# Altium schematic symbol library TMDX654GPEVM.SCHLIB: 339 symbols (part 1 of 6)
Pins are listed as number, name and electrical type; pins without a type are passive.

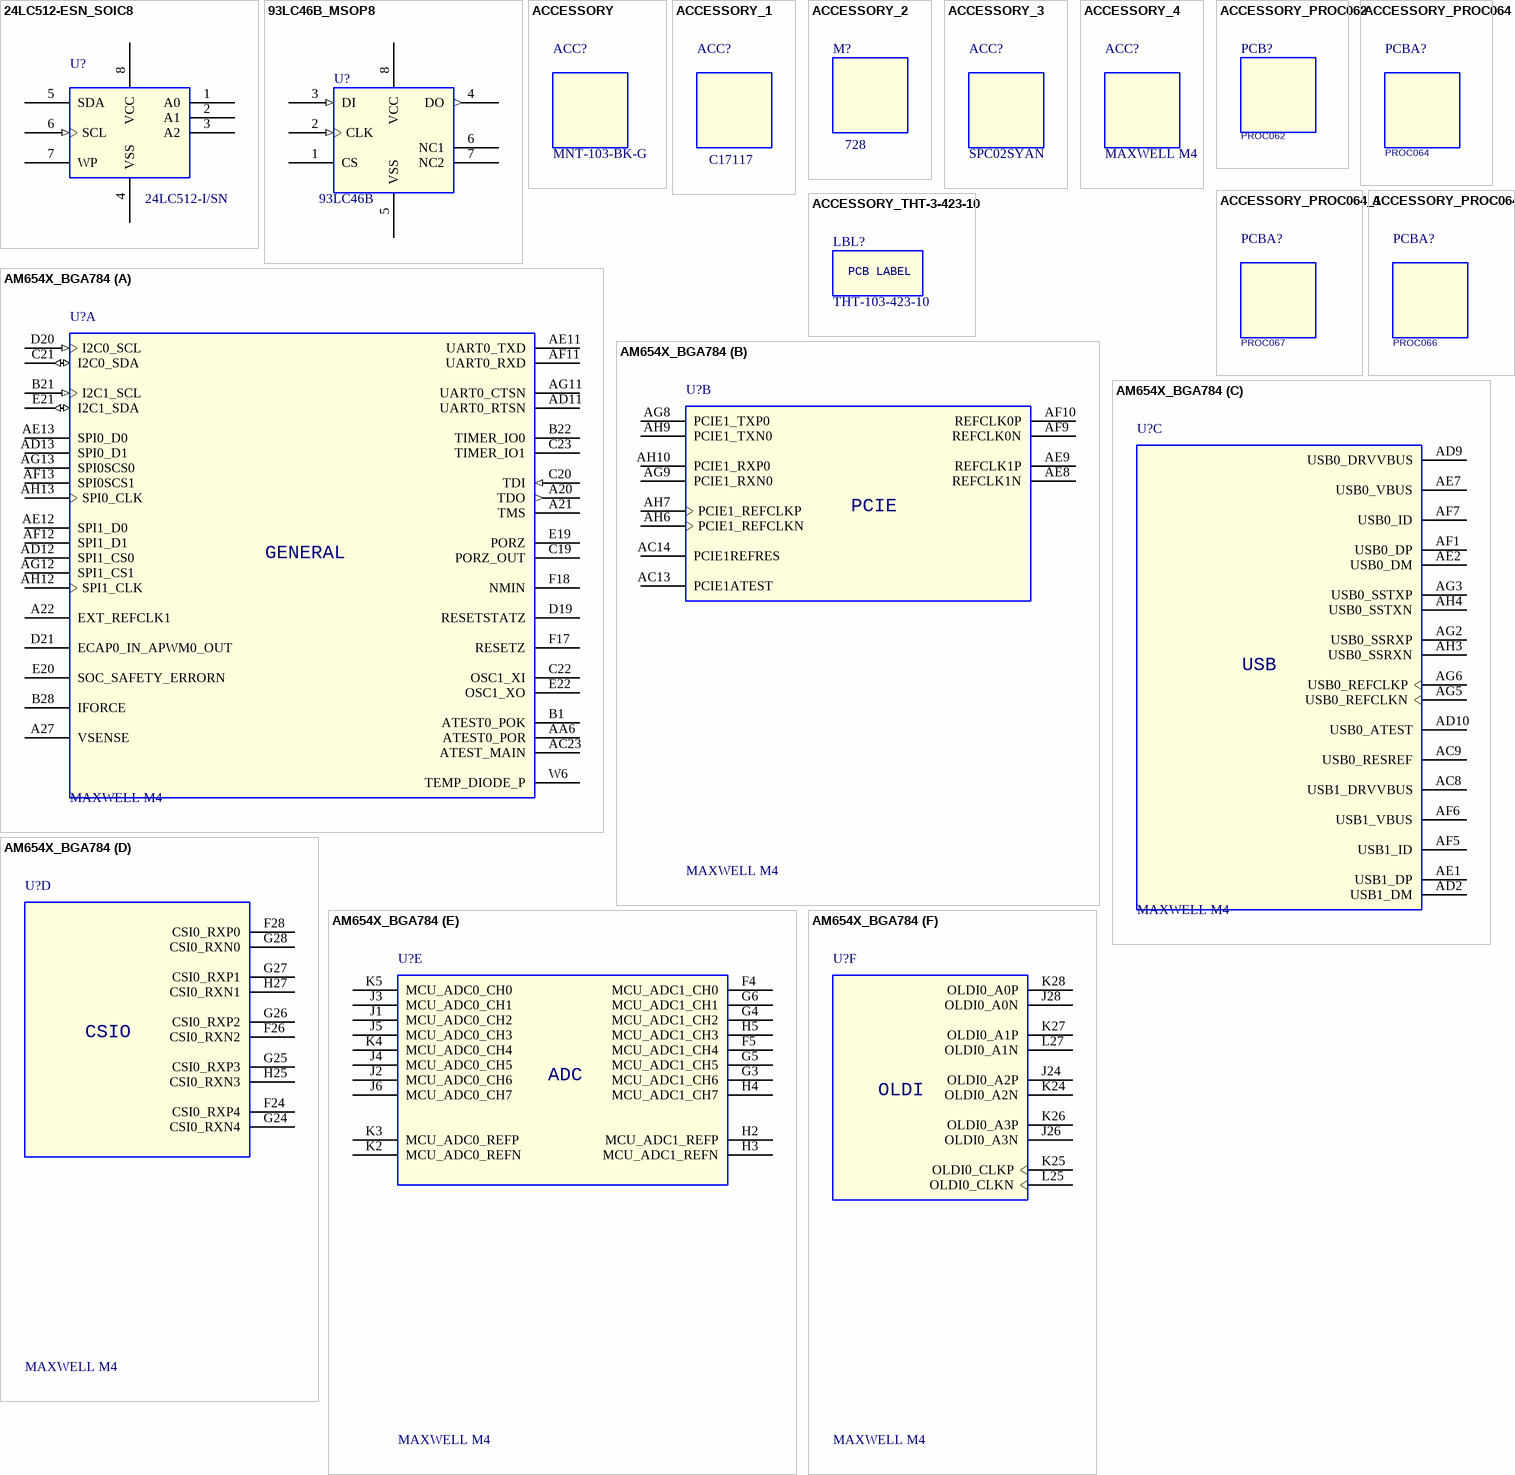
[diagram p0: symbols 24LC512-ESN_SOIC8 to AM654X_BGA784]

## 24LC512-ESN_SOIC8
designator U?, comment 24LC512-I/SN
IC 512K I2C SERIAL EEPROM MEMORY SOIC8; Mistral Part No: 141117080005-R; Mfr_name: MICROCHIP; Part_type: ICS\DIGITAL\MEMORY; Project: TI_MAXIE_CPB; Tolerance: NA; Customs_HS_Code: 85423100; Custom_Duty: 15%; MECHANICAL 3D STEP FILE: SOIC8_1-8; Library Ref: 24LC512-ESN_SOIC8; Mfr_part_number: 24LC512-I/SN; Voltage: NA; Wattage: NA; Package: SOIC8; Distributor_name: DIGIKEY; Distributor_part_number: 24LC512-I/SN-ND; Height: 1.75MM; Weight: 540mg; Temperature: -40°C+85°C; Datasheet: Y:\MIS_DATABASE\DATASHEETS\ICS\MEMORY\24LC512.PDF; Crtd /date: MANIRAJA/220817; Chkd/date: MANIRAJA/220817; PCB Footprint: SOIC8_1-8
footprint SOIC8_1-8
pins: 1 A0, 2 A1, 3 A2, 4 VSS (power), 5 SDA, 6 SCL (in), 7 WP, 8 VCC (power)

## 93LC46B_MSOP8
designator U?, comment 93LC46B
IC 1K MICROWIRE COMPATIBLE SERIAL EEPROM MSOP8; Part_type: ICS\DIGITAL\MEMORY; Mfr_part_number: 93LC46B-I/MS; Mfr_name: MICROCHIP; Mistral Part No: 141118020002-R; PCB Footprint: MSOP8_25-59_125X125_1-1; Custom_Duty: 15%; Customs_HS_Code: 85423100; Wattage: NA; Project: TI_MAXIE_CPB; Footprint Path: Y:\MIS_DATABASE\Library\ALTIUM_TOOL\PCB_FOOTPRINTS\Altium_Footprint_Lib.PcbLib; Library Path: Y:\MIS_DATABASE\Library\ALTIUM_TOOL\SCHEMATICS_PARTS\MS_MISCMEMORY_Library.schlib; MECHANICAL 3D STEP FILE: MSOP8_25-59_125X125_1-1; Chkd/date: MANIRAJA/150218; Crtd /date: ALVY/150218; Datasheet: Y:\MIS_DATABASE\DATASHEETS\ICS\MEMORY\93LC46B.PDF; Temperature: -40°C+85°C; Weight: 140mg; Height: 1.10MM; Distributor_part_number: 93LC46B-I/MS-ND; Distributor_name: DIGIKEY; Package: MSOP8; Voltage: NA; Tolerance: NA; Library Ref: 93LC46B_MSOP8; Footprint Ref: MSOP8_25-59_125X125_1-1
footprint MSOP8_25-59_125X125_1-1
pins: 1 CS, 2 CLK (in), 3 DI (in), 4 DO (out), 5 VSS (power), 6 NC1, 7 NC2, 8 VCC (power)

## ACCESSORY
designator ACC?, comment MNT-103-BK-G
ACCESSORIE CONNECTOR SHUNT 2X3 POS EDGE MOUNT SOCKET STRIP; Part_type: ACCESSORIES; Mfr_name: SAMTEC; Mistral Part No: 160017110050-R; PCB Footprint: NA; Project: TI_MAXIE_CPB; MECHANICAL 3D STEP FILE: NA; Chkd/date: MANIRAJA/141117; Crtd /date: MANIRAJA/141117; Datasheet: Y:\MIS_DATABASE\DATASHEETS\MISC\ACCESSORIES\SAMTEC-MNT-SER.PDF; Temperature: -55°C+125°C; Weight: NA; Height: NA; Distributor_part_number: SAM10620-ND; Distributor_name: DIGIKEY; Package: NA; Wattage: NA; Voltage: NA; Tolerance: NA; Mfr_part_number: MNT-103-BK-G; Library Ref: ACCESSORY
footprint NA

## ACCESSORY_1
designator ACC?, comment C17117
ACCESSORIE BGA SOCKET MAXWELL M4 MICROPROCESSOR BGA784; Part_type: ACCESSORIES; Mfr_name: IRONWOOD ELECTRONICS; Mistral Part No: 160017090045; MECHANICAL 3D STEP FILE: BGASKT784_C17117_2170X2170_37-4; Wattage: NA; Project: TI_SVB_MAXWELL_DUT; Chkd/date: MANIRAJA/190917; Crtd /date: MANIRAJA/190917; Datasheet: Y:\MIS_DATABASE\DATASHEETS\MISC\ACCESSORIES\C17117.PDF; Temperature: NA; Weight: 105.46g; Height: 37.34MM; Library Ref: ACCESSORY; Distributor_part_number: NA; Distributor_name: NA; Package: BGA784; Voltage: NA; Tolerance: NA; Mfr_part_number: C17117; PCB Footprint: BGASKT784_C17117_2170X2170_37-4
footprint BGASKT784_C17117_2170X2170_37-4

## ACCESSORY_2
designator M?, comment 728
ACCESSORIE RECESSED BUMPER 19.05MM DIA; Mistral Part No: 160018070042-R; Mfr_name: KEYSTONE; Part_type: ACCESSORIES; Project: TI_MAXIE_CPB; Tolerance: NA; Footprint Ref: NA; Mfr_part_number: 728; Voltage: NA; Wattage: NA; Package: NA; Distributor_name: DIGIKEY; Distributor_part_number: 36-728-ND; Library Ref: ACCESSORY; Height: NA; Weight: 2042mg; Temperature: NA; Datasheet: Y:\MIS_DATABASE\DATASHEETS\MISC\ACCESSORIES\728.PDF; Crtd /date: MANIRAJA/110718; Chkd/date: MANIRAJA/110718; Customs_HS_Code: NA; Custom_Duty: NA; MECHANICAL 3D STEP FILE: NA; Library Path: NA; Footprint Path: NA; PCB Footprint: NA
footprint NA

## ACCESSORY_3
designator ACC?, comment SPC02SYAN
ACCESSORIE JUMPER SHORTING GOLD FLASH; Mistral Part No: 160009030153-R; Mfr_name: SULLINS CONNECTOR; Part_type: ACCESSORIES; PCB Footprint: NA; Project: SMART VIEW_NVR; Mfr_part_number: SPC02SYAN; Package: NA; Distributor_name: DIGIKEY; Distributor_part_number: S9001-ND; Library Ref: ACCESSORY; Height: NA; Datasheet: Y:\MIS_DATABASE\DATASHEETS\MISC\MODULES\SPC02SYAN.PDF; Crtd /date: USMAN/301208; Chkd/date: SUHAS\211010; Tolerance: NA; Voltage: NA; Wattage: NA; Weight: NA; Temperature: -55°C+105°C; MECHANICAL 3D STEP FILE: NA; Library Path: Y:\MIS_DATABASE\Library\ALTIUM_TOOL\SCHEMATICS_PARTS\MS_MECHANICAL_Library.schlib; Footprint Path: Y:\MIS_DATABASE\Library\ALTIUM_TOOL\PCB_FOOTPRINTS\Altium_Footprint_Lib.PcbLib
footprint NA

## ACCESSORY_4
designator ACC?, comment MAXWELL M4
IC MAXWELL MICRO CONTROLLER UNIT BGA784; Part_type: ICS\DIGITAL\MICROCONTROLLER; Mfr_name: TEXAS INSTRUMENTS; Mistral Part No: 141217070003; MECHANICAL 3D STEP FILE: BGA784_31-49_910X910_1-7; Wattage: NA; Project: TI_SVB_MAXWELL_DUT; Customs_HS_Code: 85423100; Custom_Duty: 15%; Chkd/date: MANIRAJA/130717; Crtd /date: MANIRAJA/130717; Datasheet: Y:\MIS_DATABASE\DATASHEETS\ICS\DIGITAL\MICROCONTROLLER\MAXWELLM4.PDF; Temperature: NA; Weight: NA; Height: 1.63MM; Distributor_part_number: NA; Distributor_name: NA; Package: BGA784; Voltage: NA; Tolerance: NA; Mfr_part_number: MAXWELL M4; Library Ref: MAXWELLM4; PCB Footprint: BGA784_31-49_910X910_1-7
footprint BGA784_31-49_910X910_1-7

## ACCESSORY_PROC062
designator PCB?, comment Mfr_part_number: PROC062  (hidden comment: AM65x EVM BARE PCB)
ACCESSORIE AM65x EVM BARE PCB; Mistral Part No: FY180646000103; Mfr_name: TEXAS INSTRUMENTS; Part_type: ACCESSORIES; Project: TI_MAXIE_CPB; Tolerance: NA; Footprint Ref: NA; Voltage: NA; Wattage: NA; Package: NA; Distributor_name: NA; Distributor_part_number: NA; Library Ref: ACCESSORY_PROC062; Height: NA; Weight: NA; Temperature: NA; Datasheet: NA; Crtd /date: MANIRAJA/230718; Chkd/date: MANIRAJA/230718; RoHS: NA; Customs_HS_Code: NA; Custom_Duty: NA; MECHANICAL 3D STEP FILE: NA; Library Path: NA; Footprint Path: NA; PCB Footprint: NA
footprint NA

## ACCESSORY_PROC064
designator PCBA?, comment Mfr_part_number: PROC064  (hidden comment: AM6x IDK APPLICATION CARD)
ACCESSORIE AM6x IDK APPLICATION CARD; Part_type: ACCESSORIES; Mfr_name: TEXAS INSTRUMENTS; Mistral Part No: FY180646000203; MECHANICAL 3D STEP FILE: NA; Project: TI_MAXIE_CPB; Footprint Path: NA; Library Path: NA; Custom_Duty: NA; Customs_HS_Code: NA; RoHS: NA; Chkd/date: MANIRAJA/230718; Crtd /date: MANIRAJA/230718; Datasheet: NA; Temperature: NA; Weight: NA; Height: NA; Library Ref: ACCESSORY_PROC064; Distributor_part_number: NA; Distributor_name: NA; Package: NA; Wattage: NA; Voltage: NA; Tolerance: NA; Footprint Ref: NA; PCB Footprint: NA
footprint NA

## ACCESSORY_PROC064_1
designator PCBA?, comment Mfr_part_number: PROC067  (hidden comment: AM6x PCIE-2 LANE SERDES CARD)
ACCESSORIE AM6x PCIE-2 LANE SERDES CARD; Part_type: ACCESSORIES; Mfr_name: TEXAS INSTRUMENTS; Mistral Part No: FY180646000803; MECHANICAL 3D STEP FILE: NA; Project: TI_MAXIE_CPB; Footprint Path: NA; Library Path: NA; Custom_Duty: NA; Customs_HS_Code: NA; RoHS: NA; Chkd/date: MANIRAJA/230718; Crtd /date: MANIRAJA/230718; Datasheet: NA; Temperature: NA; Weight: NA; Height: NA; Library Ref: ACCESSORY_PROC064; Distributor_part_number: NA; Distributor_name: NA; Package: NA; Wattage: NA; Voltage: NA; Tolerance: NA; Footprint Ref: NA; PCB Footprint: NA
footprint NA

## ACCESSORY_PROC064_2
designator PCBA?, comment Mfr_part_number: PROC066  (hidden comment: AM6x USB3/PCIE SERDES CARD)
ACCESSORIE AM6x USB3/PCIE SERDES CARD; Mistral Part No: FY180646000603; Mfr_name: TEXAS INSTRUMENTS; Part_type: ACCESSORIES; Project: TI_MAXIE_CPB; Tolerance: NA; Footprint Ref: NA; Voltage: NA; Wattage: NA; Package: NA; Distributor_name: NA; Distributor_part_number: NA; Library Ref: ACCESSORY_PROC064; Height: NA; Weight: NA; Temperature: NA; Datasheet: NA; Crtd /date: MANIRAJA/230718; Chkd/date: MANIRAJA/230718; RoHS: NA; Customs_HS_Code: NA; Custom_Duty: NA; MECHANICAL 3D STEP FILE: NA; Library Path: NA; Footprint Path: NA; PCB Footprint: NA
footprint NA

## ACCESSORY_THT-3-423-10
designator LBL?, comment THT-103-423-10
ACCESSORIE 1 WORKHORSE POLYSTER LABLE 0.25" X 1"; Mistral Part No: 160018020185; Mfr_name: BRADY; Part_type: ACCESSORIES; Project: TI_MAXIE_CPB; Tolerance: NA; Mfr_part_number: THT-103-423-10; Voltage: NA; Wattage: NA; Package: NA; Distributor_name: NA; Distributor_part_number: NA; Library Ref: ACCESSORY_THT-3-423-10; Footprint Ref: NA; Height: NA; Weight: NA; Temperature: NA; Datasheet: NA; Crtd /date: ALVY/260218; Chkd/date: MANIRAJA/270218; MECHANICAL 3D STEP FILE: NA; Library Path: Y:\MIS_DATABASE\Library\ALTIUM_TOOL\SCHEMATICS_PARTS\MS_MECHANICAL_Library.schlib; Footprint Path: Y:\MIS_DATABASE\Library\ALTIUM_TOOL\PCB_FOOTPRINTS\Altium_Footprint_Lib.PcbLib; PCB Footprint: NA
footprint NA
text: PCB LABEL

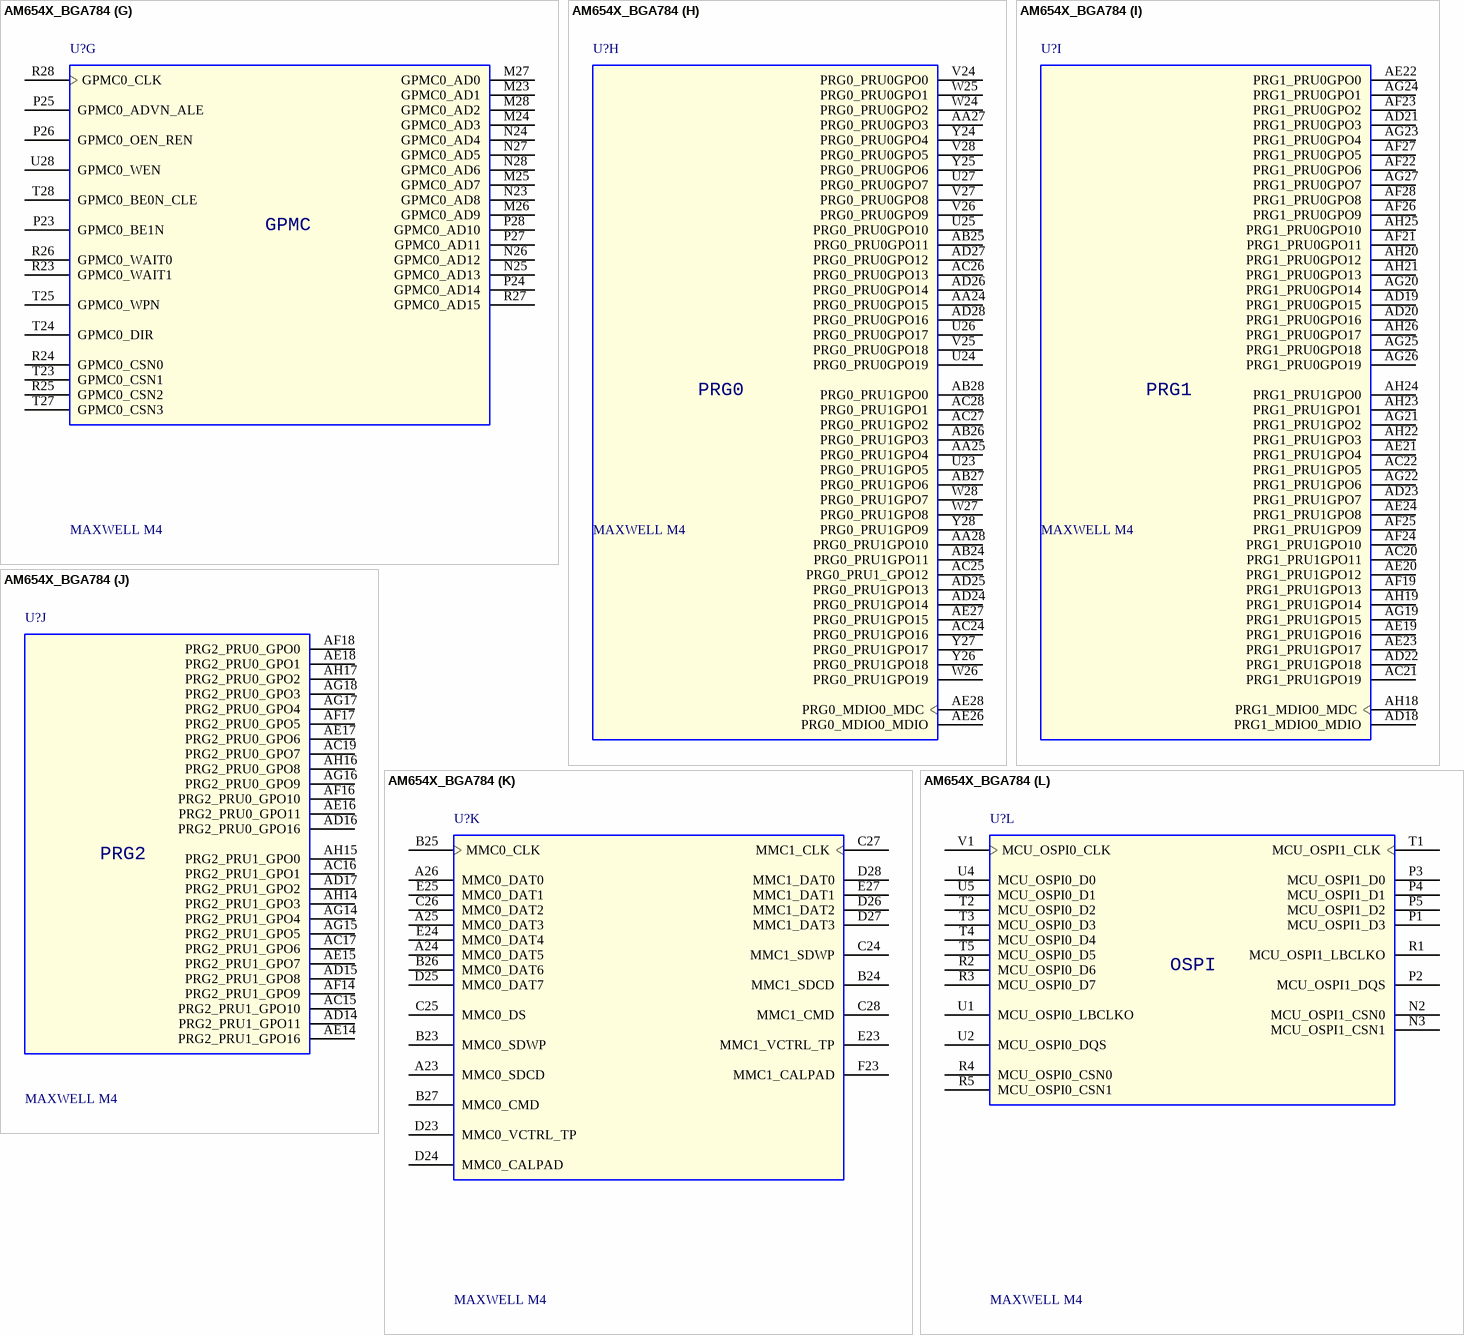
[diagram p1: symbol AM654X_BGA784]

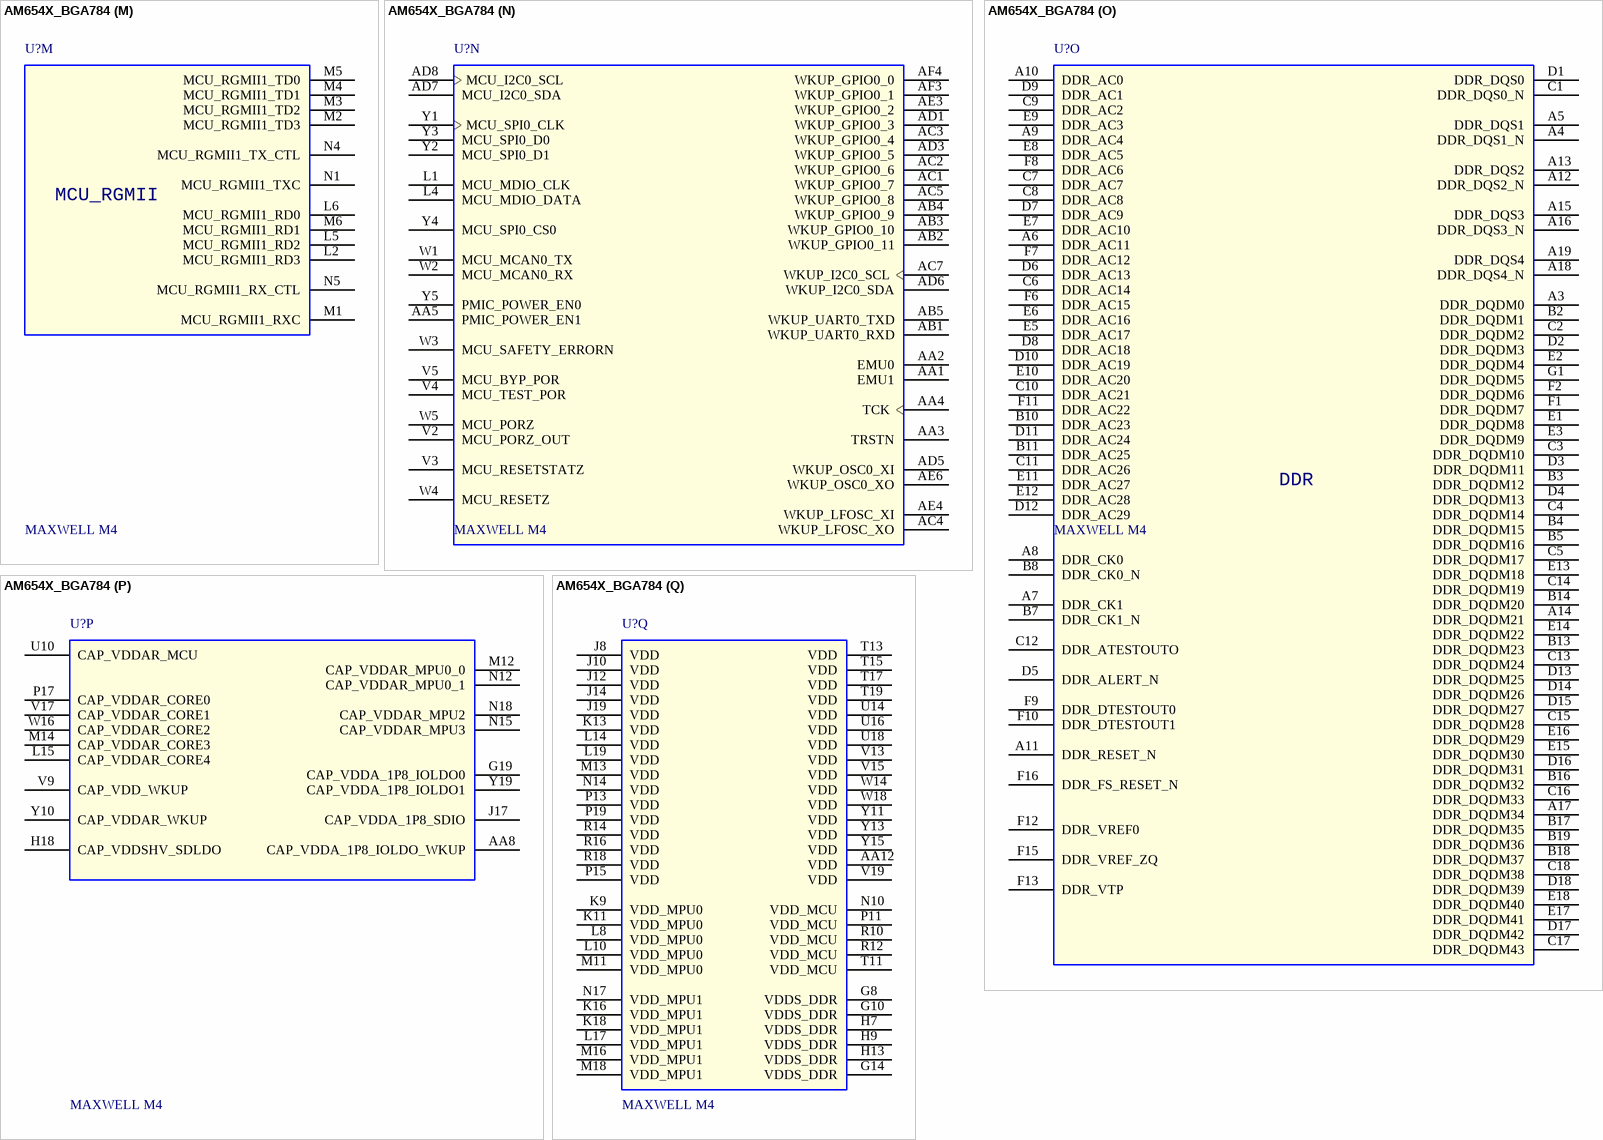
[diagram p2: symbol AM654X_BGA784]

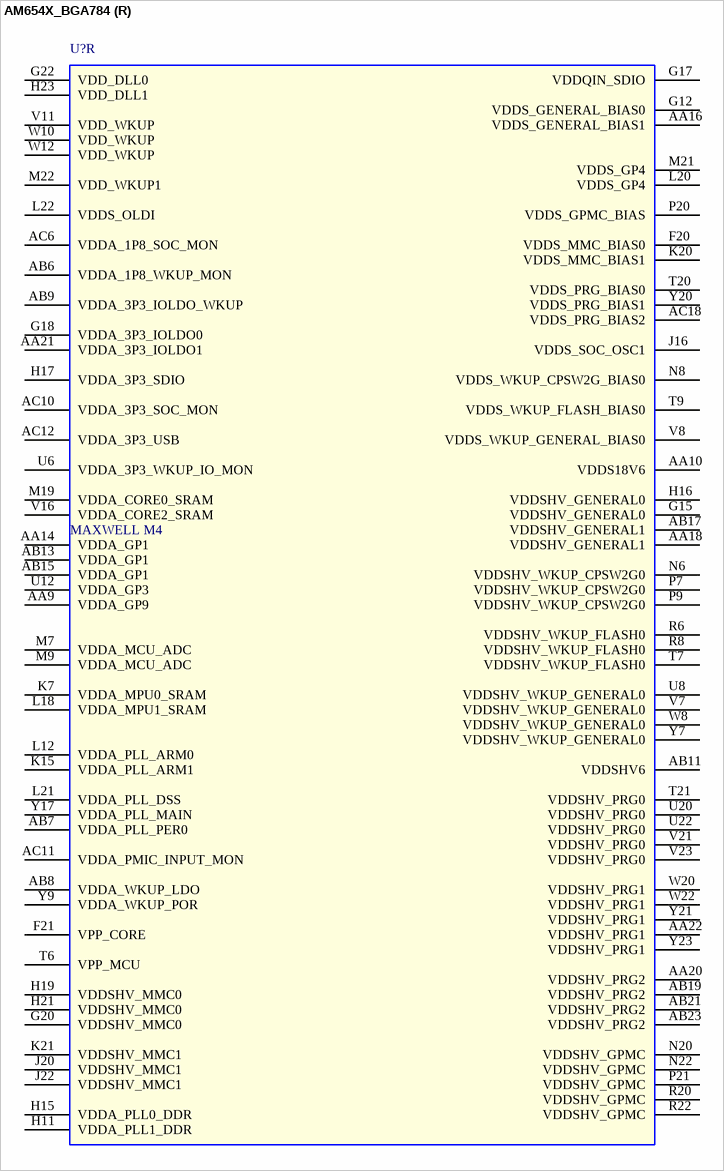
[diagram p3: symbol AM654X_BGA784]

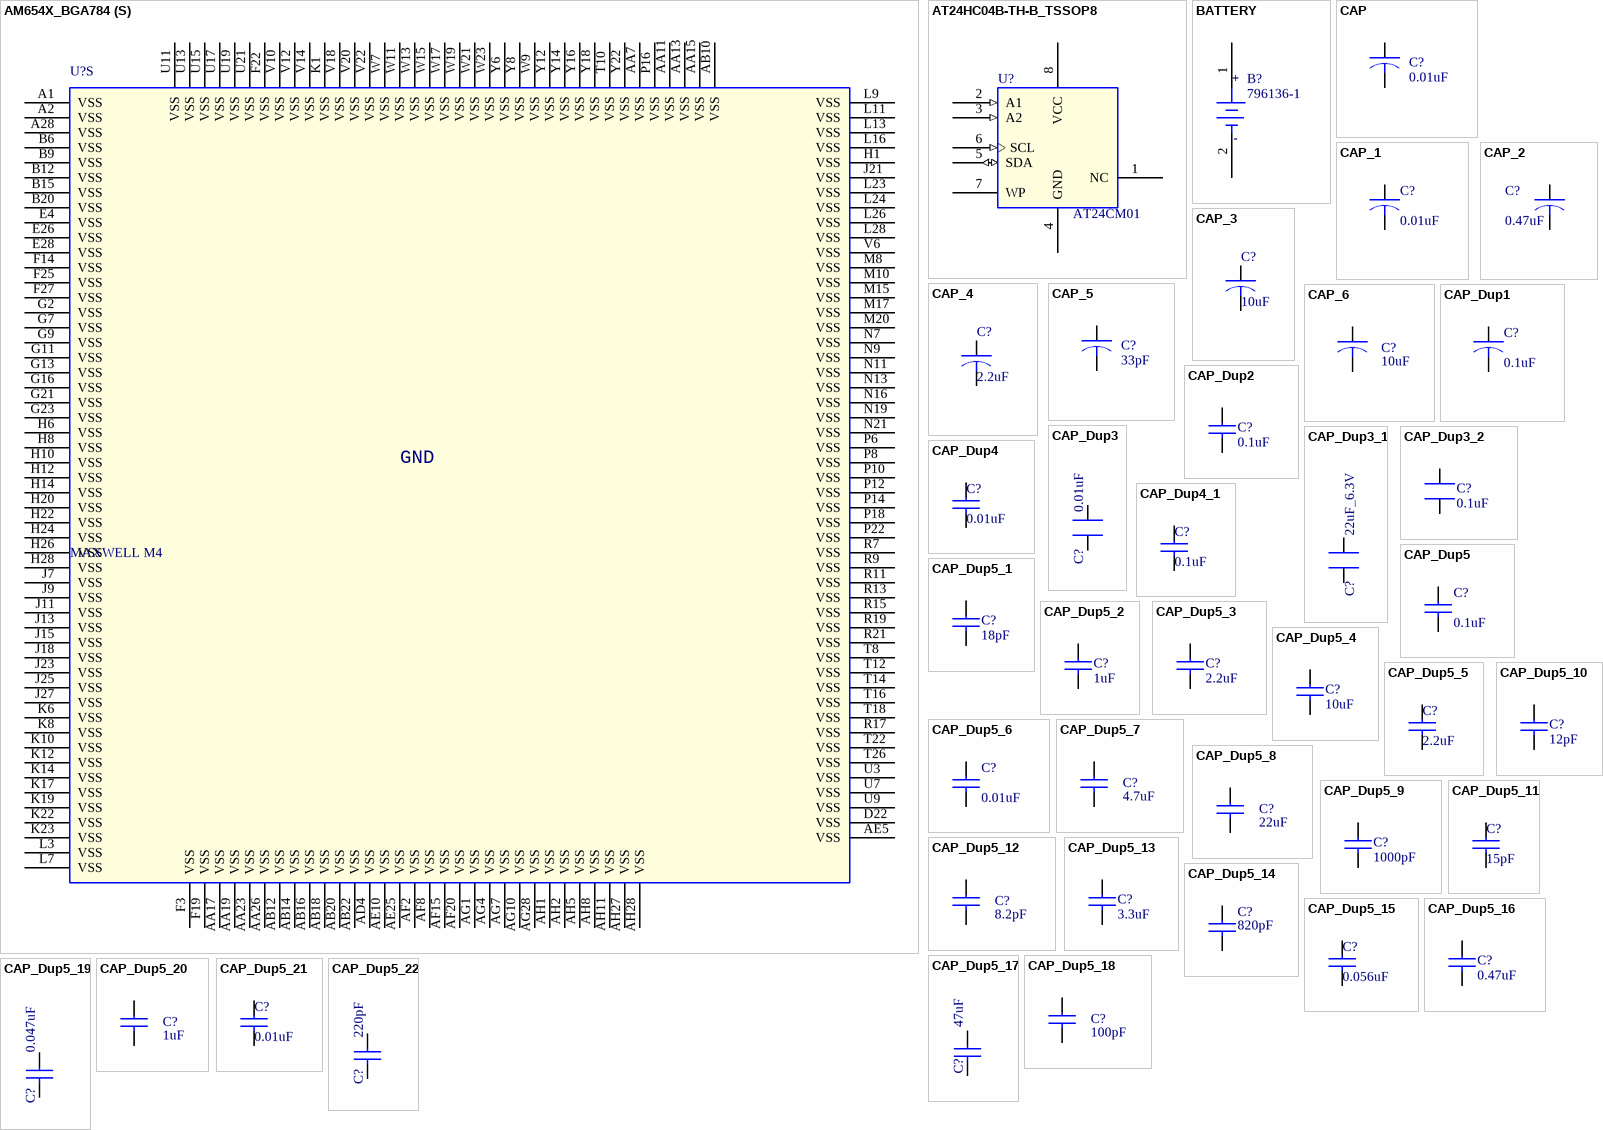
[diagram p4: symbols AM654X_BGA784 to CAP_Dup5_22]

## AM654X_BGA784
designator U?, comment MAXWELL M4
IC MAXWELL MICRO CONTROLLER UNIT BGA784; Mistral Part No: 141217100003; Mfr_name: TEXAS INSTRUMENTS; Mfr_part_number: MAXWELL M4_EVM; Part_type: ICS\DIGITAL\MICROCONTROLLER; Project: TI_MAXIE_CPB; Tolerance: NA; Customs_HS_Code: 85423100; Custom_Duty: 15%; MECHANICAL 3D STEP FILE: BGA784_31-49_910X910_1-7; Library Ref: AM654X_BGA784; Voltage: NA; Wattage: NA; Package: BGA784; Distributor_name: NA; Distributor_part_number: NA; Height: 1.63MM; Weight: NA; Temperature: NA; Datasheet: Y:\MIS_DATABASE\DATASHEETS\ICS\DIGITAL\MICROCONTROLLER\MAXWELLM4.PDF; Crtd /date: MANIRAJA/130717; Chkd/date: MANIRAJA/130717; PCB Footprint: BGA784_31-49_910X910_1-7
footprint BGA784_31-49_910X910_1-7
part A pins: A20 TDO (out), A21 TMS, A22 EXT_REFCLK1, A27 VSENSE, AA6 ATEST0_POR, AC23 ATEST_MAIN, AD11 UART0_RTSN, AD12 SPI1_CS0, AD13 SPI0_D1, AE11 UART0_TXD, AE12 SPI1_D0, AE13 SPI0_D0, AF11 UART0_RXD, AF12 SPI1_D1, AF13 SPI0SCS1, AG11 UART0_CTSN, AG12 SPI1_CS1, AG13 SPI0SCS0, AH12 SPI1_CLK, AH13 SPI0_CLK, B1 ATEST0_POK, B21 I2C1_SCL (in), B22 TIMER_IO0, B28 IFORCE, C19 PORZ_OUT, C20 TDI (in), C21 I2C0_SDA (io), C22 OSC1_XI, C23 TIMER_IO1, D19 RESETSTATZ, D20 I2C0_SCL (in), D21 ECAP0_IN_APWM0_OUT, E19 PORZ, E20 SOC_SAFETY_ERRORN, E21 I2C1_SDA (io), E22 OSC1_XO, F17 RESETZ, F18 NMIN, W6 TEMP_DIODE_P
part B pins: AC13 PCIE1ATEST, AC14 PCIE1REFRES, AE8 REFCLK1N, AE9 REFCLK1P, AF9 REFCLK0N, AF10 REFCLK0P, AG8 PCIE1_TXP0, AG9 PCIE1_RXN0, AH6 PCIE1_REFCLKN, AH7 PCIE1_REFCLKP, AH9 PCIE1_TXN0, AH10 PCIE1_RXP0
part C pins: AC8 USB1_DRVVBUS, AC9 USB0_RESREF, AD2 USB1_DM, AD9 USB0_DRVVBUS, AD10 USB0_ATEST, AE1 USB1_DP, AE2 USB0_DM, AE7 USB0_VBUS, AF1 USB0_DP, AF5 USB1_ID, AF6 USB1_VBUS, AF7 USB0_ID, AG2 USB0_SSRXP, AG3 USB0_SSTXP, AG5 USB0_REFCLKN, AG6 USB0_REFCLKP, AH3 USB0_SSRXN, AH4 USB0_SSTXN
part D pins: F24 CSI0_RXP4, F26 CSI0_RXN2, F28 CSI0_RXP0, G24 CSI0_RXN4, G25 CSI0_RXP3, G26 CSI0_RXP2, G27 CSI0_RXP1, G28 CSI0_RXN0, H25 CSI0_RXN3, H27 CSI0_RXN1
part E pins: F4 MCU_ADC1_CH0, F5 MCU_ADC1_CH4, G3 MCU_ADC1_CH6, G4 MCU_ADC1_CH2, G5 MCU_ADC1_CH5, G6 MCU_ADC1_CH1, H2 MCU_ADC1_REFP, H3 MCU_ADC1_REFN, H4 MCU_ADC1_CH7, H5 MCU_ADC1_CH3, J1 MCU_ADC0_CH2, J2 MCU_ADC0_CH6, J3 MCU_ADC0_CH1, J4 MCU_ADC0_CH5, J5 MCU_ADC0_CH3, J6 MCU_ADC0_CH7, K2 MCU_ADC0_REFN, K3 MCU_ADC0_REFP, K4 MCU_ADC0_CH4, K5 MCU_ADC0_CH0
part F pins: J24 OLDI0_A2P, J26 OLDI0_A3N, J28 OLDI0_A0N, K24 OLDI0_A2N, K25 OLDI0_CLKP, K26 OLDI0_A3P, K27 OLDI0_A1P, K28 OLDI0_A0P, L25 OLDI0_CLKN, L27 OLDI0_A1N
part G pins: M23 GPMC0_AD1, M24 GPMC0_AD3, M25 GPMC0_AD7, M26 GPMC0_AD9, M27 GPMC0_AD0, M28 GPMC0_AD2, N23 GPMC0_AD8, N24 GPMC0_AD4, N25 GPMC0_AD13, N26 GPMC0_AD12, N27 GPMC0_AD5, N28 GPMC0_AD6, P23 GPMC0_BE1N, P24 GPMC0_AD14, P25 GPMC0_ADVN_ALE, P26 GPMC0_OEN_REN, P27 GPMC0_AD11, P28 GPMC0_AD10, R23 GPMC0_WAIT1, R24 GPMC0_CSN0, R25 GPMC0_CSN2, R26 GPMC0_WAIT0, R27 GPMC0_AD15, R28 GPMC0_CLK, T23 GPMC0_CSN1, T24 GPMC0_DIR, T25 GPMC0_WPN, T27 GPMC0_CSN3, T28 GPMC0_BE0N_CLE, U28 GPMC0_WEN
part H pins: AA24 PRG0_PRU0GPO15, AA25 PRG0_PRU1GPO4, AA27 PRG0_PRU0GPO3, AA28 PRG0_PRU1GPO10, AB24 PRG0_PRU1GPO11, AB25 PRG0_PRU0GPO11, AB26 PRG0_PRU1GPO3, AB27 PRG0_PRU1GPO6, AB28 PRG0_PRU1GPO0, AC24 PRG0_PRU1GPO16, AC25 PRG0_PRU1_GPO12, AC26 PRG0_PRU0GPO13, AC27 PRG0_PRU1GPO2, AC28 PRG0_PRU1GPO1, AD24 PRG0_PRU1GPO14, AD25 PRG0_PRU1GPO13, AD26 PRG0_PRU0GPO14, AD27 PRG0_PRU0GPO12, AD28 PRG0_PRU0GPO16, AE26 PRG0_MDIO0_MDIO, AE27 PRG0_PRU1GPO15, AE28 PRG0_MDIO0_MDC, U23 PRG0_PRU1GPO5, U24 PRG0_PRU0GPO19, U25 PRG0_PRU0GPO10, U26 PRG0_PRU0GPO17, U27 PRG0_PRU0GPO7, V24 PRG0_PRU0GPO0, V25 PRG0_PRU0GPO18, V26 PRG0_PRU0GPO9, V27 PRG0_PRU0GPO8, V28 PRG0_PRU0GPO5, W24 PRG0_PRU0GPO2, W25 PRG0_PRU0GPO1, W26 PRG0_PRU1GPO19, W27 PRG0_PRU1GPO8, W28 PRG0_PRU1GPO7, Y24 PRG0_PRU0GPO4, Y25 PRG0_PRU0GPO6, Y26 PRG0_PRU1GPO18, Y27 PRG0_PRU1GPO17, Y28 PRG0_PRU1GPO9
part I pins: AC20 PRG1_PRU1GPO11, AC21 PRG1_PRU1GPO19, AC22 PRG1_PRU1GPO5, AD18 PRG1_MDIO0_MDIO, AD19 PRG1_PRU0GPO15, AD20 PRG1_PRU0GPO16, AD21 PRG1_PRU0GPO3, AD22 PRG1_PRU1GPO18, AD23 PRG1_PRU1GPO7, AE19 PRG1_PRU1GPO16, AE20 PRG1_PRU1GPO12, AE21 PRG1_PRU1GPO4, AE22 PRG1_PRU0GPO0, AE23 PRG1_PRU1GPO17, AE24 PRG1_PRU1GPO8, AF19 PRG1_PRU1GPO13, AF21 PRG1_PRU0GPO11, AF22 PRG1_PRU0GPO6, AF23 PRG1_PRU0GPO2, AF24 PRG1_PRU1GPO10, AF25 PRG1_PRU1GPO9, AF26 PRG1_PRU0GPO9, AF27 PRG1_PRU0GPO5, AF28 PRG1_PRU0GPO8, AG19 PRG1_PRU1GPO15, AG20 PRG1_PRU0GPO14, AG21 PRG1_PRU1GPO2, AG22 PRG1_PRU1GPO6, AG23 PRG1_PRU0GPO4, AG24 PRG1_PRU0GPO1, AG25 PRG1_PRU0GPO18, AG26 PRG1_PRU0GPO19, AG27 PRG1_PRU0GPO7, AH18 PRG1_MDIO0_MDC, AH19 PRG1_PRU1GPO14, AH20 PRG1_PRU0GPO12, AH21 PRG1_PRU0GPO13, AH22 PRG1_PRU1GPO3, AH23 PRG1_PRU1GPO1, AH24 PRG1_PRU1GPO0, AH25 PRG1_PRU0GPO10, AH26 PRG1_PRU0GPO17
part J pins: AC15 PRG2_PRU1_GPO10, AC16 PRG2_PRU1_GPO1, AC17 PRG2_PRU1_GPO6, AC19 PRG2_PRU0_GPO7, AD14 PRG2_PRU1_GPO11, AD15 PRG2_PRU1_GPO8, AD16 PRG2_PRU0_GPO16, AD17 PRG2_PRU1_GPO2, AE14 PRG2_PRU1_GPO16, AE15 PRG2_PRU1_GPO7, AE16 PRG2_PRU0_GPO11, AE17 PRG2_PRU0_GPO6, AE18 PRG2_PRU0_GPO1, AF14 PRG2_PRU1_GPO9, AF16 PRG2_PRU0_GPO10, AF17 PRG2_PRU0_GPO5, AF18 PRG2_PRU0_GPO0, AG14 PRG2_PRU1_GPO4, AG15 PRG2_PRU1_GPO5, AG16 PRG2_PRU0_GPO9, AG17 PRG2_PRU0_GPO4, AG18 PRG2_PRU0_GPO3, AH14 PRG2_PRU1_GPO3, AH15 PRG2_PRU1_GPO0, AH16 PRG2_PRU0_GPO8, AH17 PRG2_PRU0_GPO2
part K pins: A23 MMC0_SDCD, A24 MMC0_DAT5, A25 MMC0_DAT3, A26 MMC0_DAT0, B23 MMC0_SDWP, B24 MMC1_SDCD, B25 MMC0_CLK, B26 MMC0_DAT6, B27 MMC0_CMD, C24 MMC1_SDWP, C25 MMC0_DS, C26 MMC0_DAT2, C27 MMC1_CLK, C28 MMC1_CMD, D23 MMC0_VCTRL_TP, D24 MMC0_CALPAD, D25 MMC0_DAT7, D26 MMC1_DAT2, D27 MMC1_DAT3, D28 MMC1_DAT0, E23 MMC1_VCTRL_TP, E24 MMC0_DAT4, E25 MMC0_DAT1, E27 MMC1_DAT1, F23 MMC1_CALPAD
part L pins: N2 MCU_OSPI1_CSN0, N3 MCU_OSPI1_CSN1, P1 MCU_OSPI1_D3, P2 MCU_OSPI1_DQS, P3 MCU_OSPI1_D0, P4 MCU_OSPI1_D1, P5 MCU_OSPI1_D2, R1 MCU_OSPI1_LBCLKO, R2 MCU_OSPI0_D6, R3 MCU_OSPI0_D7, R4 MCU_OSPI0_CSN0, R5 MCU_OSPI0_CSN1, T1 MCU_OSPI1_CLK, T2 MCU_OSPI0_D2, T3 MCU_OSPI0_D3, T4 MCU_OSPI0_D4, T5 MCU_OSPI0_D5, U1 MCU_OSPI0_LBCLKO, U2 MCU_OSPI0_DQS, U4 MCU_OSPI0_D0, U5 MCU_OSPI0_D1, V1 MCU_OSPI0_CLK
part M pins: L2 MCU_RGMII1_RD3, L5 MCU_RGMII1_RD2, L6 MCU_RGMII1_RD0, M1 MCU_RGMII1_RXC, M2 MCU_RGMII1_TD3, M3 MCU_RGMII1_TD2, M4 MCU_RGMII1_TD1, M5 MCU_RGMII1_TD0, M6 MCU_RGMII1_RD1, N1 MCU_RGMII1_TXC, N4 MCU_RGMII1_TX_CTL, N5 MCU_RGMII1_RX_CTL
part N pins: AA1 EMU1, AA2 EMU0, AA3 TRSTN, AA4 TCK, AA5 PMIC_POWER_EN1, AB1 WKUP_UART0_RXD, AB2 WKUP_GPIO0_11, AB3 WKUP_GPIO0_10, AB4 WKUP_GPIO0_9, AB5 WKUP_UART0_TXD, AC1 WKUP_GPIO0_7, AC2 WKUP_GPIO0_6, AC3 WKUP_GPIO0_4, AC4 WKUP_LFOSC_XO, AC5 WKUP_GPIO0_8, AC7 WKUP_I2C0_SCL, AD1 WKUP_GPIO0_3, AD3 WKUP_GPIO0_5, AD5 WKUP_OSC0_XI, AD6 WKUP_I2C0_SDA, AD7 MCU_I2C0_SDA, AD8 MCU_I2C0_SCL, AE3 WKUP_GPIO0_2, AE4 WKUP_LFOSC_XI, AE6 WKUP_OSC0_XO, AF3 WKUP_GPIO0_1, AF4 WKUP_GPIO0_0, L1 MCU_MDIO_CLK, L4 MCU_MDIO_DATA, V2 MCU_PORZ_OUT, V3 MCU_RESETSTATZ, V4 MCU_TEST_POR, V5 MCU_BYP_POR, W1 MCU_MCAN0_TX, W2 MCU_MCAN0_RX, W3 MCU_SAFETY_ERRORN, W4 MCU_RESETZ, W5 MCU_PORZ, Y1 MCU_SPI0_CLK, Y2 MCU_SPI0_D1, Y3 MCU_SPI0_D0, Y4 MCU_SPI0_CS0, Y5 PMIC_POWER_EN0
part O pins: A3 DDR_DQDM0, A4 DDR_DQS1_N, A5 DDR_DQS1, A6 DDR_AC11, A7 DDR_CK1, A8 DDR_CK0, A9 DDR_AC4, A10 DDR_AC0, A11 DDR_RESET_N, A12 DDR_DQS2_N, A13 DDR_DQS2, A14 DDR_DQDM21, A15 DDR_DQS3, A16 DDR_DQS3_N, A17 DDR_DQDM34, A18 DDR_DQS4_N, A19 DDR_DQS4, B2 DDR_DQDM1, B3 DDR_DQDM12, B4 DDR_DQDM15, B5 DDR_DQDM16, B7 DDR_CK1_N, B8 DDR_CK0_N, B10 DDR_AC23, B11 DDR_AC25, B13 DDR_DQDM23, B14 DDR_DQDM20, B16 DDR_DQDM32, B17 DDR_DQDM35, B18 DDR_DQDM37, B19 DDR_DQDM36, C1 DDR_DQS0_N, C2 DDR_DQDM2, C3 DDR_DQDM10, C4 DDR_DQDM14, C5 DDR_DQDM17, C6 DDR_AC14, C7 DDR_AC7, C8 DDR_AC8, C9 DDR_AC2, C10 DDR_AC21, C11 DDR_AC26, C12 DDR_ATESTOUTO, C13 DDR_DQDM24, C14 DDR_DQDM19, C15 DDR_DQDM28, C16 DDR_DQDM33, C17 DDR_DQDM43, C18 DDR_DQDM38, D1 DDR_DQS0, D2 DDR_DQDM3, D3 DDR_DQDM11, D4 DDR_DQDM13, D5 DDR_ALERT_N, D6 DDR_AC13, D7 DDR_AC9, D8 DDR_AC18, D9 DDR_AC1, D10 DDR_AC19, D11 DDR_AC24, D12 DDR_AC29, D13 DDR_DQDM25, D14 DDR_DQDM26, D15 DDR_DQDM27, D16 DDR_DQDM31, D17 DDR_DQDM42, D18 DDR_DQDM39, E1 DDR_DQDM8, E2 DDR_DQDM4, E3 DDR_DQDM9, E5 DDR_AC17, E6 DDR_AC16, E7 DDR_AC10, E8 DDR_AC5, E9 DDR_AC3, E10 DDR_AC20, E11 DDR_AC27, E12 DDR_AC28, E13 DDR_DQDM18, E14 DDR_DQDM22, E15 DDR_DQDM30, E16 DDR_DQDM29, E17 DDR_DQDM41, E18 DDR_DQDM40, F1 DDR_DQDM7, F2 DDR_DQDM6, F6 DDR_AC15, F7 DDR_AC12, F8 DDR_AC6, F9 DDR_DTESTOUT0, F10 DDR_DTESTOUT1, F11 DDR_AC22, F12 DDR_VREF0, F13 DDR_VTP, F15 DDR_VREF_ZQ, F16 DDR_FS_RESET_N, G1 DDR_DQDM5
part P pins: AA8 CAP_VDDA_1P8_IOLDO_WKUP (power), G19 CAP_VDDA_1P8_IOLDO0 (power), H18 CAP_VDDSHV_SDLDO (power), J17 CAP_VDDA_1P8_SDIO (power), L15 CAP_VDDAR_CORE4 (power), M12 CAP_VDDAR_MPU0_0 (power), M14 CAP_VDDAR_CORE3 (power), N12 CAP_VDDAR_MPU0_1 (power), N15 CAP_VDDAR_MPU3 (power), N18 CAP_VDDAR_MPU2 (power), P17 CAP_VDDAR_CORE0 (power), U10 CAP_VDDAR_MCU (power), V9 CAP_VDD_WKUP (power), V17 CAP_VDDAR_CORE1 (power), W16 CAP_VDDAR_CORE2 (power), Y10 CAP_VDDAR_WKUP (power), Y19 CAP_VDDA_1P8_IOLDO1 (power)
part Q pins: AA12 VDD (power), G8 VDDS_DDR (power), G10 VDDS_DDR (power), G14 VDDS_DDR (power), H7 VDDS_DDR (power), H9 VDDS_DDR (power), H13 VDDS_DDR (power), J8 VDD (power), J10 VDD (power), J12 VDD (power), J14 VDD (power), J19 VDD (power), K9 VDD_MPU0 (power), K11 VDD_MPU0 (power), K13 VDD (power), K16 VDD_MPU1 (power), K18 VDD_MPU1 (power), L8 VDD_MPU0 (power), L10 VDD_MPU0 (power), L14 VDD (power), L17 VDD_MPU1 (power), L19 VDD (power), M11 VDD_MPU0 (power), M13 VDD (power), M16 VDD_MPU1 (power), M18 VDD_MPU1 (power), N10 VDD_MCU (power), N14 VDD (power), N17 VDD_MPU1 (power), P11 VDD_MCU (power), P13 VDD (power), P15 VDD (power), P19 VDD (power), R10 VDD_MCU (power), R12 VDD_MCU (power), R14 VDD (power), R16 VDD (power), R18 VDD (power), T11 VDD_MCU (power), T13 VDD (power), T15 VDD (power), T17 VDD (power), T19 VDD (power), U14 VDD (power), U16 VDD (power), U18 VDD (power), V13 VDD (power), V15 VDD (power), V19 VDD (power), W14 VDD (power), W18 VDD (power), Y11 VDD (power), Y13 VDD (power), Y15 VDD (power)
part R pins: AA9 VDDA_GP9 (power), AA10 VDDS18V6 (power), AA14 VDDA_GP1 (power), AA16 VDDS_GENERAL_BIAS1 (power), AA18 VDDSHV_GENERAL1 (power), AA20 VDDSHV_PRG2 (power), AA21 VDDA_3P3_IOLDO1 (power), AA22 VDDSHV_PRG1 (power), AB6 VDDA_1P8_WKUP_MON (power), AB7 VDDA_PLL_PER0 (power), AB8 VDDA_WKUP_LDO (power), AB9 VDDA_3P3_IOLDO_WKUP (power), AB11 VDDSHV6 (power), AB13 VDDA_GP1 (power), AB15 VDDA_GP1 (power), AB17 VDDSHV_GENERAL1 (power), AB19 VDDSHV_PRG2 (power), AB21 VDDSHV_PRG2 (power), AB23 VDDSHV_PRG2 (power), AC6 VDDA_1P8_SOC_MON (power), AC10 VDDA_3P3_SOC_MON (power), AC11 VDDA_PMIC_INPUT_MON (power), AC12 VDDA_3P3_USB (power), AC18 VDDS_PRG_BIAS2 (power), F20 VDDS_MMC_BIAS0 (power), F21 VPP_CORE (power), G12 VDDS_GENERAL_BIAS0 (power), G15 VDDSHV_GENERAL0 (power), G17 VDDQIN_SDIO (power), G18 VDDA_3P3_IOLDO0 (power), G20 VDDSHV_MMC0 (power), G22 VDD_DLL0 (power), H11 VDDA_PLL1_DDR (power), H15 VDDA_PLL0_DDR (power), H16 VDDSHV_GENERAL0 (power), H17 VDDA_3P3_SDIO (power), H19 VDDSHV_MMC0 (power), H21 VDDSHV_MMC0 (power), H23 VDD_DLL1 (power), J16 VDDS_SOC_OSC1 (power), J20 VDDSHV_MMC1 (power), J22 VDDSHV_MMC1 (power), K7 VDDA_MPU0_SRAM (power), K15 VDDA_PLL_ARM1 (power), K20 VDDS_MMC_BIAS1 (power), K21 VDDSHV_MMC1 (power), L12 VDDA_PLL_ARM0 (power), L18 VDDA_MPU1_SRAM (power), L20 VDDS_GP4 (power), L21 VDDA_PLL_DSS (power), L22 VDDS_OLDI (power), M7 VDDA_MCU_ADC (power), M9 VDDA_MCU_ADC (power), M19 VDDA_CORE0_SRAM (power), M21 VDDS_GP4 (power), M22 VDD_WKUP1 (power), N6 VDDSHV_WKUP_CPSW2G0 (power), N8 VDDS_WKUP_CPSW2G_BIAS0 (power), N20 VDDSHV_GPMC (power), N22 VDDSHV_GPMC (power), P7 VDDSHV_WKUP_CPSW2G0 (power), P9 VDDSHV_WKUP_CPSW2G0 (power), P20 VDDS_GPMC_BIAS (power), P21 VDDSHV_GPMC (power), R6 VDDSHV_WKUP_FLASH0 (power), R8 VDDSHV_WKUP_FLASH0 (power), R20 VDDSHV_GPMC (power), R22 VDDSHV_GPMC (power), T6 VPP_MCU (power), T7 VDDSHV_WKUP_FLASH0 (power), T9 VDDS_WKUP_FLASH_BIAS0 (power), T20 VDDS_PRG_BIAS0 (power), T21 VDDSHV_PRG0 (power), U6 VDDA_3P3_WKUP_IO_MON (power), U8 VDDSHV_WKUP_GENERAL0 (power), U12 VDDA_GP3 (power), U20 VDDSHV_PRG0 (power), U22 VDDSHV_PRG0 (power), V7 VDDSHV_WKUP_GENERAL0 (power), V8 VDDS_WKUP_GENERAL_BIAS0 (power), V11 VDD_WKUP (power), V16 VDDA_CORE2_SRAM (power), V21 VDDSHV_PRG0 (power), V23 VDDSHV_PRG0 (power), W8 VDDSHV_WKUP_GENERAL0 (power), W10 VDD_WKUP (power), W12 VDD_WKUP (power), W20 VDDSHV_PRG1 (power), W22 VDDSHV_PRG1 (power), Y7 VDDSHV_WKUP_GENERAL0 (power), Y9 VDDA_WKUP_POR (power), Y17 VDDA_PLL_MAIN (power), Y20 VDDS_PRG_BIAS1 (power), Y21 VDDSHV_PRG1 (power), Y23 VDDSHV_PRG1 (power)
part S pins: A1 VSS (power), A2 VSS (power), A28 VSS (power), AA7 VSS (power), AA11 VSS (power), AA13 VSS (power), AA15 VSS (power), AA17 VSS (power), AA19 VSS (power), AA23 VSS (power), AA26 VSS (power), AB10 VSS (power), AB12 VSS (power), AB14 VSS (power), AB16 VSS (power), AB18 VSS (power), AB20 VSS (power), AB22 VSS (power), AD4 VSS (power), AE5 VSS (power), AE10 VSS (power), AE25 VSS (power), AF2 VSS (power), AF8 VSS (power), AF15 VSS (power), AF20 VSS (power), AG1 VSS (power), AG4 VSS (power), AG7 VSS (power), AG10 VSS (power), AG28 VSS (power), AH1 VSS (power), AH2 VSS (power), AH5 VSS (power), AH8 VSS (power), AH11 VSS (power), AH27 VSS (power), AH28 VSS (power), B6 VSS (power), B9 VSS (power), B12 VSS (power), B15 VSS (power), B20 VSS (power), D22 VSS (power), E4 VSS (power), E26 VSS (power), E28 VSS (power), F3 VSS (power), F14 VSS (power), F19 VSS (power), F22 VSS (power), F25 VSS (power), F27 VSS (power), G2 VSS (power), G7 VSS (power), G9 VSS (power), G11 VSS (power), G13 VSS (power), G16 VSS (power), G21 VSS (power), G23 VSS (power), H1 VSS (power), H6 VSS (power), H8 VSS (power), H10 VSS (power), H12 VSS (power), H14 VSS (power), H20 VSS (power), H22 VSS (power), H24 VSS (power), H26 VSS (power), H28 VSS (power), J7 VSS (power), J9 VSS (power), J11 VSS (power), J13 VSS (power), J15 VSS (power), J18 VSS (power), J21 VSS (power), J23 VSS (power), J25 VSS (power), J27 VSS (power), K1 VSS (power), K6 VSS (power), K8 VSS (power), K10 VSS (power), K12 VSS (power), K14 VSS (power), K17 VSS (power), K19 VSS (power), K22 VSS (power), K23 VSS (power), L3 VSS (power), L7 VSS (power), L9 VSS (power), L11 VSS (power), L13 VSS (power), L16 VSS (power), L23 VSS (power), L24 VSS (power), L26 VSS (power), L28 VSS (power), M8 VSS (power), M10 VSS (power), M15 VSS (power), M17 VSS (power), M20 VSS (power), N7 VSS (power), N9 VSS (power), N11 VSS (power), N13 VSS (power), N16 VSS (power), N19 VSS (power), N21 VSS (power), P6 VSS (power), P8 VSS (power), P10 VSS (power), P12 VSS (power), P14 VSS (power), P16 VSS (power), P18 VSS (power), P22 VSS (power), R7 VSS (power), R9 VSS (power), R11 VSS (power), R13 VSS (power), R15 VSS (power), R17 VSS (power), R19 VSS (power), R21 VSS (power), T8 VSS (power), T10 VSS (power), T12 VSS (power), T14 VSS (power), T16 VSS (power), T18 VSS (power), T22 VSS (power), T26 VSS (power), U3 VSS (power), U7 VSS (power), U9 VSS (power), U11 VSS (power), U13 VSS (power), U15 VSS (power), U17 VSS (power), U19 VSS (power), U21 VSS (power), V6 VSS (power), V10 VSS (power), V12 VSS (power), V14 VSS (power), V18 VSS (power), V20 VSS (power), V22 VSS (power), W7 VSS (power), W9 VSS (power), W11 VSS (power), W13 VSS (power), W15 VSS (power), W17 VSS (power), W19 VSS (power), W21 VSS (power), W23 VSS (power), Y6 VSS (power), Y8 VSS (power), Y12 VSS (power), Y14 VSS (power), Y16 VSS (power), Y18 VSS (power), Y22 VSS (power)
part A text: GENERAL
part B text: PCIE
part C text: USB
part D text: CSIO
part E text: ADC
part F text: OLDI
part G text: GPMC
part H text: PRG0
part I text: PRG1
part J text: PRG2
part L text: OSPI
part M text: MCU_RGMII
part O text: DDR
part S text: GND

## AT24HC04B-TH-B_TSSOP8
designator U?, comment AT24CM01
IC 1MBIT I2C SERIAL EEPROM TSSOP8; Mistral Part No: 141114090006-R; Mfr_name: ATMEL; Mfr_part_number: AT24CM01-XHD-T; Part_type: ICS\DIGITAL\MEMORY; Project: GALILEO_EVM; Tolerance: NA; Customs_HS_Code: 85423100; Custom_Duty: 15%; MECHANICAL 3D STEP FILE: TSSOP8_25-59_125X180_1-2; Library Ref: AT24HC04B-TH-B_TSSOP8; Voltage: NA; Wattage: NA; Package: TSSOP8; Distributor_name: DIGIKEY; Distributor_part_number: AT24CM01-XHD-TCT-ND; Height: 1.20MM; Weight: 158mg; Temperature: -40°C+85°C; Datasheet: Y:\MIS_DATABASE\DATASHEETS\ICS\MEMORY\AT24CM01.PDF; Crtd /date: VASANTHA/230914; Chkd/date: NAVEED/241114; PCB Footprint: TSSOP8_25-59_125X180_1-2
footprint TSSOP8_25-59_125X180_1-2
pins: 1 NC, 2 A1 (in), 3 A2 (in), 4 GND (power), 5 SDA (io), 6 SCL (in), 7 WP, 8 VCC (power)

## BATTERY
designator B?, comment 796136-1
BATTERY HOLDER COIN CELL TOP LOAD SMD; Mfr_name: AMP INCORPORATED; Mistral Part No: 130011020020-R; Wattage: NA; Project: OMAPL1_PEC20; MECHANICAL 3D STEP FILE: BATTH2_796136_1080X750_SMD_6-9; Library Ref: BATTERY; Chkd/date: MANIRAJA/161017; Crtd /date: BAVISH/090211; Datasheet: Y:\MIS_DATABASE\DATASHEETS\MISC\BATTERY\796136-1.PDF; Temperature: NA; Weight: NA; Height: 6.85MM; Distributor_part_number: A99327CT-ND; Distributor_name: DIGIKEY; Package: SMD; Voltage: NA; Tolerance: NA; Part_type: BATTERY HOLDER; Mfr_part_number: 796136-1; PCB Footprint: BATTH2_796136_1080X750_SMD_6-9
footprint BATTH2_796136_1080X750_SMD_6-9
pins: 1 +, 2 -

## CAP
designator C?, comment 0.01uF
CAP CERAMIC 0.01uF 10V 10% X7R 0402; Mistral Part No: 120009030017-R; Mfr_name: AVX CORPORATION; Mfr_part_number: 0402ZC103KAT2A; Part_type: CAPACITORS\CERAMIC; PCB Footprint: CAP0402_0-75; Project: ADR; Wattage: NA; Customs_HS_Code: 85322990; Custom_Duty: 15%; Tolerance: 10%; Voltage: 10V; Package: 0402; Distributor_name: DIGIKEY; Distributor_part_number: 478-7890-1-ND; Library Ref: CAP; Height: 0.56MM; Weight: 0.65mg; Temperature: -55°C+125°C; Datasheet: Y:\MIS_DATABASE\DATASHEETS\CAPACITORS\AVX_MLC.PDF; Crtd /date: MAZHAR/201005; Chkd/date: VASANTHA/061216; MECHANICAL 3D STEP FILE: CAP0402_0-75
footprint CAP0402_0-75
pins: 1, 2

## CAP_1
designator C?, comment 0.01uF
CAP CERAMIC 0.01uF 25V 10% X5R 0201; Part_type: CAPACITORS\CERAMIC; Mfr_part_number: GRM033R61E103KA12J; Mfr_name: MURATA; Mistral Part No: 120018010007-R; MECHANICAL 3D STEP FILE: CAP0201_0-5; Custom_Duty: 15%; Customs_HS_Code: 85322990; Wattage: NA; Project: TI_MAXIE_CPB; Chkd/date: MANIRAJA/230118; Crtd /date: MANIRAJA/230118; Datasheet: Y:\MIS_DATABASE\DATASHEETS\CAPACITORS\GRM033R61E103KA12.PDF; Temperature: -55°C+85°C; Weight: 0.33mg; Height: 0.33MM; Distributor_part_number: GRM033R61E103KA12J-ND; Distributor_name: DIGIKEY; Package: 0201; Voltage: 25V; Tolerance: 10%; PCB Footprint: CAP0201_0-5; Library Ref: CAP
footprint CAP0201_0-5
pins: 1, 2

## CAP_2
designator C?, comment 0.47uF
CAP CERAMIC 0.47uF 50V 5% X7R 0805; Mistral Part No: 120018010019-R; Mfr_name: YAGEO AMERICA; Mfr_part_number: CC0805JKX7R9BB474; Part_type: CAPACITORS\CERAMIC; MECHANICAL 3D STEP FILE: CAP0805_1-5; Project: TI_MAXIE_CPB; Wattage: NA; Customs_HS_Code: 85322990; Custom_Duty: 15%; PCB Footprint: CAP0805_1-5; Tolerance: 5%; Voltage: 50V; Package: 0805; Distributor_name: MOUSER; Distributor_part_number: 603-CC0805JK7R9BB474; Height: 1.35MM; Weight: 5.5mg; Temperature: -55°C+125°C; Datasheet: Y:\MIS_DATABASE\DATASHEETS\CAPACITORS\YACC0603.PDF; Crtd /date: MANIRAJA/240118; Chkd/date: MANIRAJA/240118; Library Ref: CAP
footprint CAP0805_1-5
pins: 1, 2

## CAP_3
designator C?, comment 10uF
CAP CERAMIC 10uF 50V 20% X5R 1206; Mistral Part No: 120018010013-R; Mfr_name: MURATA; Mfr_part_number: GRM31CR61H106MA12L; Part_type: CAPACITORS\CERAMIC; MECHANICAL 3D STEP FILE: CAP1206_2; Project: TI_MAXIE_CPB; Wattage: NA; Customs_HS_Code: 85322990; Custom_Duty: 15%; Footprint Path: Y:\MIS_DATABASE\Library\ALTIUM_TOOL\PCB_FOOTPRINTS\Altium_Footprint_Lib.PcbLib; Library Path: Y:\MIS_DATABASE\Library\ALTIUM_TOOL\SCHEMATICS_PARTS\MS_DISCRETE_Library.schlib; PCB Footprint: CAP1206_2; Tolerance: 20%; Voltage: 50V; Package: 1206; Distributor_name: DIGIKEY; Distributor_part_number: 490-10756-1-ND; Height: 1.80MM; Weight: 40mg; Temperature: -55°C+85°C; Datasheet: Y:\MIS_DATABASE\DATASHEETS\CAPACITORS\GRM31CR61H106MA12.PDF; Crtd /date: MANIRAJA/240118; Chkd/date: MANIRAJA/240118; Library Ref: CAP; Footprint Ref: CAP1206_2
footprint CAP1206_2
pins: 1, 2

## CAP_4
designator C?, comment 2.2uF
CAP CERAMIC 2.2uF 50V 10% X5R 0805; Part_type: CAPACITORS\CERAMIC; Mfr_part_number: C2012X5R1H225K085AB; Mfr_name: TDK CORPORATION; Mistral Part No: 120018010012-R; PCB Footprint: CAP0805_1; Custom_Duty: 15%; Customs_HS_Code: 85322990; Wattage: NA; Project: TI_MAXIE_CPB; Footprint Path: Y:\MIS_DATABASE\Library\ALTIUM_TOOL\PCB_FOOTPRINTS\Altium_Footprint_Lib.PcbLib; Library Path: Y:\MIS_DATABASE\Library\ALTIUM_TOOL\SCHEMATICS_PARTS\MS_DISCRETE_Library.schlib; Footprint Ref: CAP0805_1; MECHANICAL 3D STEP FILE: CAP0805_1; Chkd/date: MANIRAJA/310818; Crtd /date: MANIRAJA/310818; Datasheet: Y:\MIS_DATABASE\DATASHEETS\CAPACITORS\TDK_C-SER-JUL17.PDF; Temperature: -55°C+85°C; Weight: 5.5mg; Height: 1.00MM; Distributor_part_number: 445-14407-1-ND; Distributor_name: DIGIKEY; Package: 0805; Voltage: 50V; Tolerance: 10%; Library Ref: CAP
footprint CAP0805_1
pins: 1, 2

## CAP_5
designator C?, comment 33pF
CAP CERAMIC 33pF 50V 2% C0G(NP0) 0201; Mistral Part No: 120018010015-R; Mfr_name: MURATA; Mfr_part_number: GRM0335C1H330GA01D; Part_type: CAPACITORS\CERAMIC; MECHANICAL 3D STEP FILE: CAP0201_0-5; Wattage: NA; Project: TI_MAXIE_CPB; Customs_HS_Code: 85322990; Custom_Duty: 15%; Temperature: -55°C+125°C; Weight: 0.33mg; PCB Footprint: CAP0201_0-5; Tolerance: 2%; Voltage: 50V; Package: 0201; Distributor_name: DIGIKEY; Distributor_part_number: 490-11325-1-ND; Height: 0.33MM; Datasheet: Y:\MIS_DATABASE\DATASHEETS\CAPACITORS\GRM0335C1H330GA01.PDF; Crtd /date: MANIRAJA/240118; Chkd/date: MANIRAJA/240118; Library Ref: CAP
footprint CAP0201_0-5
pins: 1, 2

## CAP_6
designator C?, comment 10uF
CAP CERAMIC 10uF 10V 10% X5R 0603; Mistral Part No: 120010080001-R; Mfr_name: AVX CORPORATION; Mfr_part_number: 0603ZD106KAT2A; Part_type: CAPACITORS\CERAMIC; MECHANICAL 3D STEP FILE: CAP0603_1; Project: TI_MAXIE_CPB; Wattage: NA; Customs_HS_Code: 85322990; Custom_Duty: 15%; Library Ref: CAP; PCB Footprint: CAP0603_1; Tolerance: 10%; Voltage: 10V; Package: 0603; Distributor_name: DIGIKEY; Distributor_part_number: 478-10766-1-ND; Height: 0.94MM; Weight: 2mg; Temperature: -55°C+85°C; Datasheet: Y:\MIS_DATABASE\DATASHEETS\CAPACITORS\AVX_MLC.PDF; Crtd /date: MANIRAJA/230118; Chkd/date: MANIRAJA/230118
footprint CAP0603_1
pins: 1, 2

## CAP_Dup1
designator C?, comment 0.1uF
CAP CERAMIC 0.1uF 50V 20% X7R 0603; Mistral Part No: 120018010021-R; Mfr_name: KEMET; Mfr_part_number: C0603C104M5RACTU; Part_type: CAPACITORS\CERAMIC; MECHANICAL 3D STEP FILE: CAP0603_1; Project: TI_MAXIE_CPB; Wattage: NA; Customs_HS_Code: 85322990; Custom_Duty: 15%; Library Ref: CAP; Tolerance: 20%; Voltage: 50V; Package: 0603; Distributor_name: DIGIKEY; Distributor_part_number: 399-7845-1-ND; Height: 0.95MM; Weight: 2mg; Temperature: -55°C+125°C; Datasheet: Y:\MIS_DATABASE\DATASHEETS\CAPACITORS\KEMET-X7R-SER.PDF; Crtd /date: MANIRAJA/240118; Chkd/date: MANIRAJA/240118; PCB Footprint: CAP0603_1
footprint CAP0603_1
pins: 1, 2

## CAP_Dup2
designator C?, comment 0.1uF
CAP CERAMIC 0.1uF 16V 10% X5R 0201; PART_NUMBER: EC01002; Mfr_name: MURATA; Mfr_part_number: GRM033R61C104KE84J; Part_type: CAPACITORS\CERAMIC; Mistral Part No: 120009030072-R; PCB Footprint: CAP0201_0-5; Project: TI_MAXIE_CPB; Customs_HS_Code: 85322990; Custom_Duty: 15%; Wattage: NA; Tolerance: 10%; Voltage: 16V; Package: 0201; Distributor_name: DIGIKEY; Distributor_part_number: 490-16742-1-ND; Height: 0.33MM; Datasheet: Y:\MIS_DATABASE\DATASHEETS\CAPACITORS\GRM033R61C104KE84.PDF; Crtd /date: MANIRAJA/120218; Chkd/date: MANIRAJA/120218; Taser_part_number: EC01002; Weight: 0.33mg; Temperature: -55°C+85°C; MECHANICAL 3D STEP FILE: CAP0201_0-5; Library Ref: CAP
footprint CAP0201_0-5
pins: 1, 2

## CAP_Dup3
designator C?, comment 0.01uF
CAP CERAMIC 0.01uF 25V 10% X5R 0201; Part_type: CAPACITORS\CERAMIC; Mfr_part_number: GRM033R61E103KA12J; Mfr_name: MURATA; Mistral Part No: 120018010007-R; MECHANICAL 3D STEP FILE: CAP0201_0-5; Wattage: NA; Custom_Duty: 15%; Customs_HS_Code: 85322990; Project: TI_MAXIE_CPB; Library Ref: CAP; Temperature: -55°C+85°C; Weight: 0.33mg; PCB Footprint: CAP0201_0-5; Chkd/date: MANIRAJA/230118; Crtd /date: MANIRAJA/230118; Datasheet: Y:\MIS_DATABASE\DATASHEETS\CAPACITORS\GRM033R61E103KA12.PDF; Height: 0.33MM; Distributor_part_number: GRM033R61E103KA12J-ND; Distributor_name: DIGIKEY; Package: 0201; Voltage: 25V; Tolerance: 10%
footprint CAP0402N
footprint CAP0201_0-5
pins: 1, 2

## CAP_Dup3_1
designator C?, comment 22uF_6.3V
CAP CERAMIC 22uF 6.3V 20% X5R 0603; Alternate_mfr_part_number_A: CC0603MRX5R5BB226; Alternate_mfr_name_A: YAGEO AMERICA; Mistral Part No: 120015090007-R; Mfr_name: MURATA; Mfr_part_number: GRM188R60J226MEA0; Part_type: CAPACITORS\CERAMIC; Project: OCTBTS_3000; Wattage: NA; Customs_HS_Code: 85322990; Custom_Duty: 15%; PCB Footprint: CAP0603; Distributor_part_number_A: 311-1815-1-ND; Distributor_name_A: DIGIKEY; Library Ref: CAP; Tolerance: 20%; Voltage: 6.3V; Package: 0603; Distributor_name: DIGIKEY; Distributor_part_number: 490-7611-2-ND; Height: 1.00MM; Weight: NA; Temperature: -55°C+85°C; Datasheet: Y:\MIS_DATABASE\DATASHEETS\CAPACITORS\GRM188SERIES.PDF; Crtd /date: JEBRAN/090915; Chkd/date: JEBRAN/090915
footprint CAP0402N
footprint CAP0603
pins: 1, 2

## CAP_Dup3_2
designator C?, comment 0.1uF
CAP CERAMIC 0.1uF 16V 10% X5R 0201; Mistral Part No: 120009030072-R; Mfr_name: MURATA; Mfr_part_number: GRM033R61C104KE84J; Part_type: CAPACITORS\CERAMIC; Project: TI_MAXIE_CPB; Customs_HS_Code: 85322990; Custom_Duty: 15%; Wattage: NA; MECHANICAL 3D STEP FILE: CAP0201_0-5; Library Ref: CAP; Tolerance: 10%; Voltage: 16V; Package: 0201; Distributor_name: DIGIKEY; Distributor_part_number: 490-16742-1-ND; Height: 0.33MM; Datasheet: Y:\MIS_DATABASE\DATASHEETS\CAPACITORS\GRM033R61C104KE84.PDF; Crtd /date: MANIRAJA/120218; Chkd/date: MANIRAJA/120218; Weight: 0.33mg; Temperature: -55°C+85°C; PCB Footprint: CAP0201_0-5
footprint CAP0402N
footprint CAP0201_0-5
pins: 1, 2

## CAP_Dup4
designator C?, comment 0.01uF
CAP CERAMIC 0.01uF 25V 10% X5R 0201; Mistral Part No: 120018010007-R; Mfr_name: MURATA; Mfr_part_number: GRM033R61E103KA12J; Part_type: CAPACITORS\CERAMIC; MECHANICAL 3D STEP FILE: CAP0201_0-5; Wattage: NA; Project: TI_MAXIE_CPB; Customs_HS_Code: 85322990; Custom_Duty: 15%; Tolerance: 10%; Voltage: 25V; Package: 0201; Distributor_name: DIGIKEY; Distributor_part_number: GRM033R61E103KA12J-ND; Height: 0.33MM; Weight: 0.33mg; Temperature: -55°C+85°C; Datasheet: Y:\MIS_DATABASE\DATASHEETS\CAPACITORS\GRM033R61E103KA12.PDF; Crtd /date: MANIRAJA/230118; Chkd/date: MANIRAJA/230118; PCB Footprint: CAP0201_0-5; Library Ref: CAP
footprint CAP0201_0-5
pins: 1, 2

## CAP_Dup4_1
designator C?, comment 0.1uF
CAP CERAMIC 0.1uF 16V 10% X5R 0201; Part_type: CAPACITORS\CERAMIC; Mfr_part_number: GRM033R61C104KE84J; Mfr_name: MURATA; Mistral Part No: 120009030072-R; PCB Footprint: CAP0201_0-5; Custom_Duty: 15%; Customs_HS_Code: 85322990; Wattage: NA; Project: TI_MAXIE_CPB; Library Ref: CAP; MECHANICAL 3D STEP FILE: CAP0201_0-5; Temperature: -55°C+85°C; Chkd/date: MANIRAJA/120218; Crtd /date: MANIRAJA/120218; Datasheet: Y:\MIS_DATABASE\DATASHEETS\CAPACITORS\GRM033R61C104KE84.PDF; Weight: 0.33mg; Height: 0.33MM; Distributor_part_number: 490-16742-1-ND; Distributor_name: DIGIKEY; Package: 0201; Voltage: 16V; Tolerance: 10%
footprint CAP0201_0-5
pins: 1, 2

## CAP_Dup5
designator C?, comment 0.1uF
CAP CERAMIC 0.1uF 16V 10% X5R 0201; Part_type: CAPACITORS\CERAMIC; Mfr_part_number: GRM033R61C104KE84J; Mfr_name: MURATA; Mistral Part No: 120009030072-R; MECHANICAL 3D STEP FILE: CAP0201_0-5; Custom_Duty: 15%; Customs_HS_Code: 85322990; Wattage: NA; Project: TI_MAXIE_CPB; Library Ref: CAP; Chkd/date: MANIRAJA/120218; Crtd /date: MANIRAJA/120218; Datasheet: Y:\MIS_DATABASE\DATASHEETS\CAPACITORS\GRM033R61C104KE84.PDF; Temperature: -55°C+85°C; Weight: 0.33mg; Height: 0.33MM; Distributor_part_number: 490-16742-1-ND; Distributor_name: DIGIKEY; Package: 0201; Voltage: 16V; Tolerance: 10%; PCB Footprint: CAP0201_0-5
footprint CAP0201_0-5
pins: 1, 2

## CAP_Dup5_1
designator C?, comment 18pF
CAP CERAMIC 18pF 50V 5% C0G(NP0) 0402; Part_type: CAPACITORS\CERAMIC; Mfr_part_number: GRM1555C1H180JA01D; Mfr_name: MURATA; Mistral Part No: 120014050002-R; MECHANICAL 3D STEP FILE: CAP0402_0-75; Custom_Duty: 15%; Customs_HS_Code: 85322990; Wattage: NA; Project: HUMANWARE_PHOENIX; Footprint Path: Y:\MIS_DATABASE\Library\ALTIUM_TOOL\PCB_FOOTPRINTS\Altium_Footprint_Lib.PcbLib; Library Path: Y:\MIS_DATABASE\Library\ALTIUM_TOOL\SCHEMATICS_PARTS\MS_DISCRETE_Library.schlib; PCB Footprint: CAP0402_0-75; Footprint Ref: CAP0402_0-75; Library Ref: CAP; Chkd/date: VASANTHA/150514; Crtd /date: BALACHANDAR/150514; Datasheet: Y:\MIS_DATABASE\DATASHEETS\CAPACITORS\GRM188SERIES.PDF; Temperature: -55°C+125°C; Weight: 6mg; Height: 0.55MM; Distributor_part_number: 490-5858-1-ND; Distributor_name: DIGIKEY; Package: 0402; Voltage: 50V; Tolerance: 5%
footprint CAP0402_0-75
pins: 1, 2

## CAP_Dup5_2
designator C?, comment 1uF
CAP CERAMIC 1uF 16V 20% X5R 0402; Part_type: CAPACITORS\CERAMIC; Mfr_part_number: EMK105BJ105MV-F; Mfr_name: TAIYO YUDEN; Mistral Part No: 120018020006-R; MECHANICAL 3D STEP FILE: CAP0402_0-75; Custom_Duty: 15%; Customs_HS_Code: 85322990; Wattage: NA; Project: TI_MAXIE_CPB; Footprint Path: Y:\MIS_DATABASE\Library\ALTIUM_TOOL\PCB_FOOTPRINTS\Altium_Footprint_Lib.PcbLib; Library Path: Y:\MIS_DATABASE\Library\ALTIUM_TOOL\SCHEMATICS_PARTS\MS_DISCRETE_Library.schlib; Chkd/date: MANIRAJA/150218; Crtd /date: ALVY/150218; Datasheet: Y:\MIS_DATABASE\DATASHEETS\CAPACITORS\EMK105BJ105MV-F.PDF; Temperature: -55°C+85°C; Weight: 0.65mg; Height: 0.55MM; Distributor_part_number: 587-5514-1-ND; Distributor_name: DIGIKEY; Package: 0402; Voltage: 16V; Tolerance: 20%; Library Ref: CAP; Footprint Ref: CAP0402_0-75; PCB Footprint: CAP0402_0-75
footprint CAP0402_0-75
pins: 1, 2

## CAP_Dup5_3
designator C?, comment 2.2uF
CAP CERAMIC 2.2uF 10V 10% X5R 0603; Mistral Part No: 120009030289-R; Mfr_name: KEMET; Mfr_part_number: C0603C225K8PACTU; Part_type: CAPACITORS\CERAMIC; Alternate_mfr_name_C: PANASONIC-ECG; Alternate_mfr_part_number_C: ECJ-1VB1A225K; Project: PMP LCD BOARD; Customs_HS_Code: 85322990; Custom_Duty: 15%; PCB Footprint: CAP0603; Library Ref: CAP; Tolerance: 10%; Voltage: 10V; Package: 0603; Distributor_name: MOUSER; Distributor_part_number: 80-C0603C225K8P; Height: 0.90MM; Datasheet: Y:\MIS_DATABASE\DATASHEETS\CAPACITORS\KEMET-C08.PDF; Crtd /date: MAZHAR/291106; Chkd/date: SHREESHAIL/280507; Distributor_name_C: DIGIKEY; Distributor_part_number_C: PCC2397CT-ND
footprint CAP0603
pins: 1, 2

## CAP_Dup5_4
designator C?, comment 10uF
CAP CERAMIC 10uF 10V 10% X5R 0603; Part_type: CAPACITORS\CERAMIC; Mfr_part_number: 0603ZD106KAT2A; Mfr_name: AVX CORPORATION; Mistral Part No: 120010080001-R; MECHANICAL 3D STEP FILE: CAP0603_1; Wattage: NA; Custom_Duty: 15%; Customs_HS_Code: 85322990; Project: TI_MAXIE_CPB; Temperature: -55°C+85°C; Weight: 2mg; Chkd/date: MANIRAJA/230118; Crtd /date: MANIRAJA/230118; Datasheet: Y:\MIS_DATABASE\DATASHEETS\CAPACITORS\AVX_MLC.PDF; Height: 0.94MM; Distributor_part_number: 478-10766-1-ND; Distributor_name: DIGIKEY; Package: 0603; Voltage: 10V; Tolerance: 10%; Library Ref: CAP; PCB Footprint: CAP0603_1
footprint CAP0603_1
pins: 1, 2

## CAP_Dup5_5
designator C?, comment 2.2uF
CAP CERAMIC 2.2uF 10V 20% X5R 0402; Mistral Part No: 120018010016-R; Mfr_name: MURATA; Mfr_part_number: GRT155R61A225ME01D; Part_type: CAPACITORS\CERAMIC; Project: TI_MAXIE_CPB; Wattage: NA; Customs_HS_Code: 85322990; Custom_Duty: 15%; PCB Footprint: CAP0402_0-75; Library Ref: CAP; Tolerance: 20%; Voltage: 10V; Package: 0402; Distributor_name: DIGIKEY; Distributor_part_number: 490-12254-1-ND; Height: 0.55MM; Weight: 0.65mg; Temperature: -55°C+85°C; Datasheet: Y:\MIS_DATABASE\DATASHEETS\CAPACITORS\GRT155R61A225ME01.PDF; Crtd /date: MANIRAJA/240118; Chkd/date: MANIRAJA/240118; MECHANICAL 3D STEP FILE: CAP0402_0-75
footprint CAP0402_0-75
pins: 1, 2

## CAP_Dup5_6
designator C?, comment 0.01uF
CAP CERAMIC 0.01uF 25V 10% X5R 0201; Part_type: CAPACITORS\CERAMIC; Mfr_part_number: GRM033R61E103KA12J; Mfr_name: MURATA; Mistral Part No: 120018010007-R; PCB Footprint: CAP0201_0-5; Custom_Duty: 15%; Customs_HS_Code: 85322990; Project: TI_MAXIE_CPB; Wattage: NA; Chkd/date: MANIRAJA/230118; Crtd /date: MANIRAJA/230118; Datasheet: Y:\MIS_DATABASE\DATASHEETS\CAPACITORS\GRM033R61E103KA12.PDF; Height: 0.33MM; Distributor_part_number: GRM033R61E103KA12J-ND; Distributor_name: DIGIKEY; Package: 0201; Voltage: 25V; Tolerance: 10%; Weight: 0.33mg; Temperature: -55°C+85°C; MECHANICAL 3D STEP FILE: CAP0201_0-5; Library Ref: CAP
footprint CAP0201_0-5
pins: 1, 2

## CAP_Dup5_7
designator C?, comment 4.7uF
CAP CERAMIC 4.7uF 10V 20% X5R 0402; Mistral Part No: 120012060002-R; Mfr_name: AVX CORPORATION; Mfr_part_number: 0402ZD475MAT2A; Part_type: CAPACITORS\CERAMIC; PCB Footprint: CAP0402_0-75; Project: TI_MAXIE_CPB; Wattage: NA; Customs_HS_Code: 85322990; Custom_Duty: 15%; Tolerance: 20%; Voltage: 10V; Package: 0402; Distributor_name: DIGIKEY; Distributor_part_number: 478-10791-1-ND; Height: 0.71MM; Weight: 0.65mg; Temperature: -55°C+85°C; Datasheet: Y:\MIS_DATABASE\DATASHEETS\CAPACITORS\AVX_MLC.PDF; Crtd /date: MANIRAJA/230118; Chkd/date: MANIRAJA/230118; MECHANICAL 3D STEP FILE: CAP0402_0-75; Library Ref: CAP
footprint CAP0402_0-75
pins: 1, 2

## CAP_Dup5_8
designator C?, comment 22uF
CAP CERAMIC 22uF 16V 20% X7R 1206; Part_type: CAPACITORS\CERAMIC; Mfr_part_number: EMK316BB7226ML-T; Mfr_name: TAIYO YUDEN; Mistral Part No: 120017010003-R; MECHANICAL 3D STEP FILE: CAP1206_2; Custom_Duty: 15%; Customs_HS_Code: 85322990; Wattage: NA; Project: TRMM_SMART-M_PS; Chkd/date: VASANTHA/170117; Crtd /date: VASANTHA/170117; Datasheet: Y:\MIS_DATABASE\DATASHEETS\CAPACITORS\EMK316BB7226ML.PDF; Temperature: -55°C+125°C; Weight: 16.2mg; Height: 1.90MM; Library Ref: CAP; Distributor_part_number: 587-4319-1-ND; Distributor_name: DIGIKEY; Package: 1206; Voltage: 16V; Tolerance: 20%; PCB Footprint: CAP1206_2
footprint CAP1206_2
pins: 1, 2

## CAP_Dup5_9
designator C?, comment 1000pF
CAP CERAMIC 1000pF 2KV 10% X7R 1206; Mistral Part No: 120009030147-R; Mfr_name: AVX CORPORATION; Mfr_part_number: 1206GC102KAT1A; Part_type: CAPACITORS\CERAMIC; Project: ADR1B; Customs_HS_Code: 85322990; Custom_Duty: 15%; PCB Footprint: CAP1206; Footprint Path: Y:\MIS_DATABASE\Library\ALTIUM_TOOL\PCB_FOOTPRINTS\Altium_Footprint_Lib.PcbLib; Library Path: Y:\MIS_DATABASE\Library\ALTIUM_TOOL\SCHEMATICS_PARTS\MS_DISCRETE_Library.schlib; Footprint Ref: CAP1206; Library Ref: CAP; Tolerance: 10%; Voltage: 2KV; Package: 1206; Distributor_name: DIGIKEY; Distributor_part_number: 478-2956-1-ND; Height: 1.50MM; Weight: NA; Temperature: -55°C+125°C; Datasheet: Y:\MIS_DATABASE\DATASHEETS\CAPACITORS\AVX_MLC.PDF; Crtd /date: MAZHAR/281106; Chkd/date: SHREESHAIL/291106
footprint CAP1206
pins: 1, 2

## CAP_Dup5_10
designator C?, comment 12pF
CAP CERAMIC 12pF 50V 5% C0G 0402; Part_type: CAPACITORS\CERAMIC; Mfr_part_number: GRM1555C1H120JA01D; Mfr_name: MURATA; Mistral Part No: 120015110024-R; PCB Footprint: CAP0402; Custom_Duty: 15%; Customs_HS_Code: 85322990; Wattage: NA; Project: TI_C5545; Chkd/date: VASANTHA/271115; Crtd /date: VASANTHA/271115; Datasheet: Y:\MIS_DATABASE\DATASHEETS\CAPACITORS\GRM188SERIES.PDF; Temperature: -55°C+125°C; Weight: NA; Height: 0.55MM; Distributor_part_number: 490-5924-1-ND; Distributor_name: DIGIKEY; Package: 0402; Voltage: 50V; Tolerance: 5%; Library Ref: CAP; Footprint Ref: CAP0402; Library Path: Y:\MIS_DATABASE\Library\ALTIUM_TOOL\SCHEMATICS_PARTS\MS_DISCRETE_Library.schlib; Footprint Path: Y:\MIS_DATABASE\Library\ALTIUM_TOOL\PCB_FOOTPRINTS\Altium_Footprint_Lib.PcbLib
footprint CAP0402
pins: 1, 2

## CAP_Dup5_11
designator C?, comment 15pF
CAP CERAMIC 15pF 50V 5% C0G 0402; Mistral Part No: 120010040006-R; Mfr_name: MURATA; Mfr_part_number: GRM1555C1H150JA01D; Part_type: CAPACITORS\CERAMIC; PCB Footprint: CAP0402_0-75; Project: BUG_BASE-II; Wattage: NA; Customs_HS_Code: 85322990; Custom_Duty: 15%; Tolerance: 5%; Voltage: 50V; Package: 0402; Distributor_name: DIGIKEY; Distributor_part_number: 490-5888-1-ND; Height: 0.55MM; Weight: 0.3g; Temperature: -55°C+125°C; Datasheet: Y:\MIS_DATABASE\DATASHEETS\CAPACITORS\MURATA_CMCC.PDF; Crtd /date: MUDDU/290410; Chkd/date: VASANTHA/061216; MECHANICAL 3D STEP FILE: CAP0402_0-75; Library Ref: CAP
footprint CAP0402_0-75
pins: 1, 2

## CAP_Dup5_12
designator C?, comment 8.2pF
CAP CERAMIC 8.2pF 50V 0.5pF C0G(NP0) 0402; Part_type: CAPACITORS\CERAMIC; Mfr_part_number: GCM1555C1H8R2DA16D; Mfr_name: MURATA; Mistral Part No: 120018010017-R; MECHANICAL 3D STEP FILE: CAP0402_0-75; Wattage: NA; Custom_Duty: 15%; Customs_HS_Code: 85322990; Tolerance: 0.5pF%; Project: TI_MAXIE_CPB; Library Ref: CAP; PCB Footprint: CAP0402_0-75; Chkd/date: MANIRAJA/240118; Crtd /date: MANIRAJA/240118; Datasheet: Y:\MIS_DATABASE\DATASHEETS\CAPACITORS\MURATA-GCM-SER.PDF; Temperature: -55°C+125°C; Weight: 6mg; Height: 0.55MM; Distributor_part_number: GCM1555C1H8R2DA16D-ND; Distributor_name: DIGIKEY; Package: 0402; Voltage: 50V
footprint CAP0402_0-75
pins: 1, 2

## CAP_Dup5_13
designator C?, comment 3.3uF
CAP CERAMIC 3.3uF 6.3V 20% X5R 0402; Part_type: CAPACITORS\CERAMIC; Mfr_part_number: C1005X5R0J335M050BC; Mfr_name: TDK CORPORATION; Mistral Part No: 120015020002-R; PCB Footprint: CAP0402; Custom_Duty: 15%; Customs_HS_Code: 85322990; Wattage: NA; Project: GALILEO_EVM; Chkd/date: NAVEED/270315; Crtd /date: VASANTHA/130215; Datasheet: Y:\MIS_DATABASE\DATASHEETS\CAPACITORS\TDK_CAP.PDF; Temperature: -55°C+85°C; Weight: NA; Height: 0.60MM; Distributor_part_number: 445-7394-1-ND; Distributor_name: DIGIKEY; Package: 0402; Voltage: 6.3V; Tolerance: 20%; Library Ref: CAP
footprint CAP0402
pins: 1, 2

## CAP_Dup5_14
designator C?, comment 820pF
CAP CERAMIC 820pF 50V 5% C0G(NP0) 0402; Part_type: CAPACITORS\CERAMIC; Mfr_part_number: C1005NP01H821J050BA; Mfr_name: TDK CORPORATION; Mistral Part No: 120018010010-R; MECHANICAL 3D STEP FILE: CAP0402_0-75; Custom_Duty: 15%; Customs_HS_Code: 85322990; Wattage: NA; Project: TI_MAXIE_CPB; PCB Footprint: CAP0402_0-75; Chkd/date: MANIRAJA/120218; Crtd /date: MANIRAJA/120218; Datasheet: Y:\MIS_DATABASE\DATASHEETS\CAPACITORS\C1005NP01H821J050BA.PDF; Temperature: -55°C+150°C; Weight: 0.65mg; Height: 0.55MM; Distributor_part_number: 445-13812-1-ND; Distributor_name: DIGIKEY; Package: 0402; Voltage: 50V; Tolerance: 5%; Library Ref: CAP
footprint CAP0402_0-75
pins: 1, 2

## CAP_Dup5_15
designator C?, comment 0.056uF
CAP CERAMIC 0.056uF 10V 10% X5R 0402; Part_type: CAPACITORS\CERAMIC; Mfr_part_number: GRM155R61A563KA01D; Mfr_name: MURATA; Mistral Part No: 120018010014-R; MECHANICAL 3D STEP FILE: CAP0402_0-75; Custom_Duty: 15%; Customs_HS_Code: 85322990; Wattage: NA; Project: TI_MAXIE_CPB; PCB Footprint: CAP0402_0-75; Chkd/date: MANIRAJA/240118; Crtd /date: MANIRAJA/240118; Datasheet: Y:\MIS_DATABASE\DATASHEETS\CAPACITORS\GRM155R61A563KA01.PDF; Temperature: -55°C+85°C; Weight: 6mg; Height: 0.55MM; Distributor_part_number: 490-5413-1-ND; Distributor_name: DIGIKEY; Package: 0402; Voltage: 10V; Tolerance: 10%; Library Ref: CAP
footprint CAP0402_0-75
pins: 1, 2

## CAP_Dup5_16
designator C?, comment 0.47uF
CAP CERAMIC 0.47uF 25V 10% X5R 0805; Part_type: CAPACITORS\CERAMIC; Mfr_part_number: TMK212BJ474KD-T; Mfr_name: TAIYO YUDEN; Mistral Part No: 120018010009-R; PCB Footprint: CAP0805_1; Wattage: NA; Custom_Duty: 15%; Customs_HS_Code: 85322990; Project: TI_MAXIE_CPB; MECHANICAL 3D STEP FILE: CAP0805_1; Temperature: -55°C+85°C; Weight: 5.5mg; Chkd/date: MANIRAJA/120218; Crtd /date: MANIRAJA/120218; Datasheet: Y:\MIS_DATABASE\DATASHEETS\CAPACITORS\TMK212BJ474KD.PDF; Height: 0.95MM; Distributor_part_number: 587-1290-1-ND; Distributor_name: DIGIKEY; Package: 0805; Voltage: 25V; Tolerance: 10%; Library Ref: CAP
footprint CAP0805_1
pins: 1, 2

## CAP_Dup5_17
designator C?, comment 47uF
CAP CERAMIC 47uF 25V 20% X5R 1206; Part_type: CAPACITORS\CERAMIC; Mfr_part_number: GRM31CR61E476ME44L; Mfr_name: MURATA; Mistral Part No: 120013050002-R; PCB Footprint: CAP1206_2; Custom_Duty: 15%; Customs_HS_Code: 85322990; Wattage: NA; Project: TI_MAXIE_CPB; MECHANICAL 3D STEP FILE: CAP1206_2; Chkd/date: MANIRAJA/230118; Crtd /date: MANIRAJA/230118; Datasheet: Y:\MIS_DATABASE\DATASHEETS\CAPACITORS\GRM31.PDF; Temperature: -55°C+85°C; Weight: NA; Height: 1.80MM; Distributor_part_number: 490-16268-1-ND; Distributor_name: DIGIKEY; Package: 1206; Voltage: 25V; Tolerance: 20%; Library Ref: CAP
footprint CAP1206_2
pins: 1, 2